# Altium schematic symbol library Component.SchLib: 203 symbols (part 1 of 2)
Pins are listed as number, name and electrical type; pins without a type are passive.

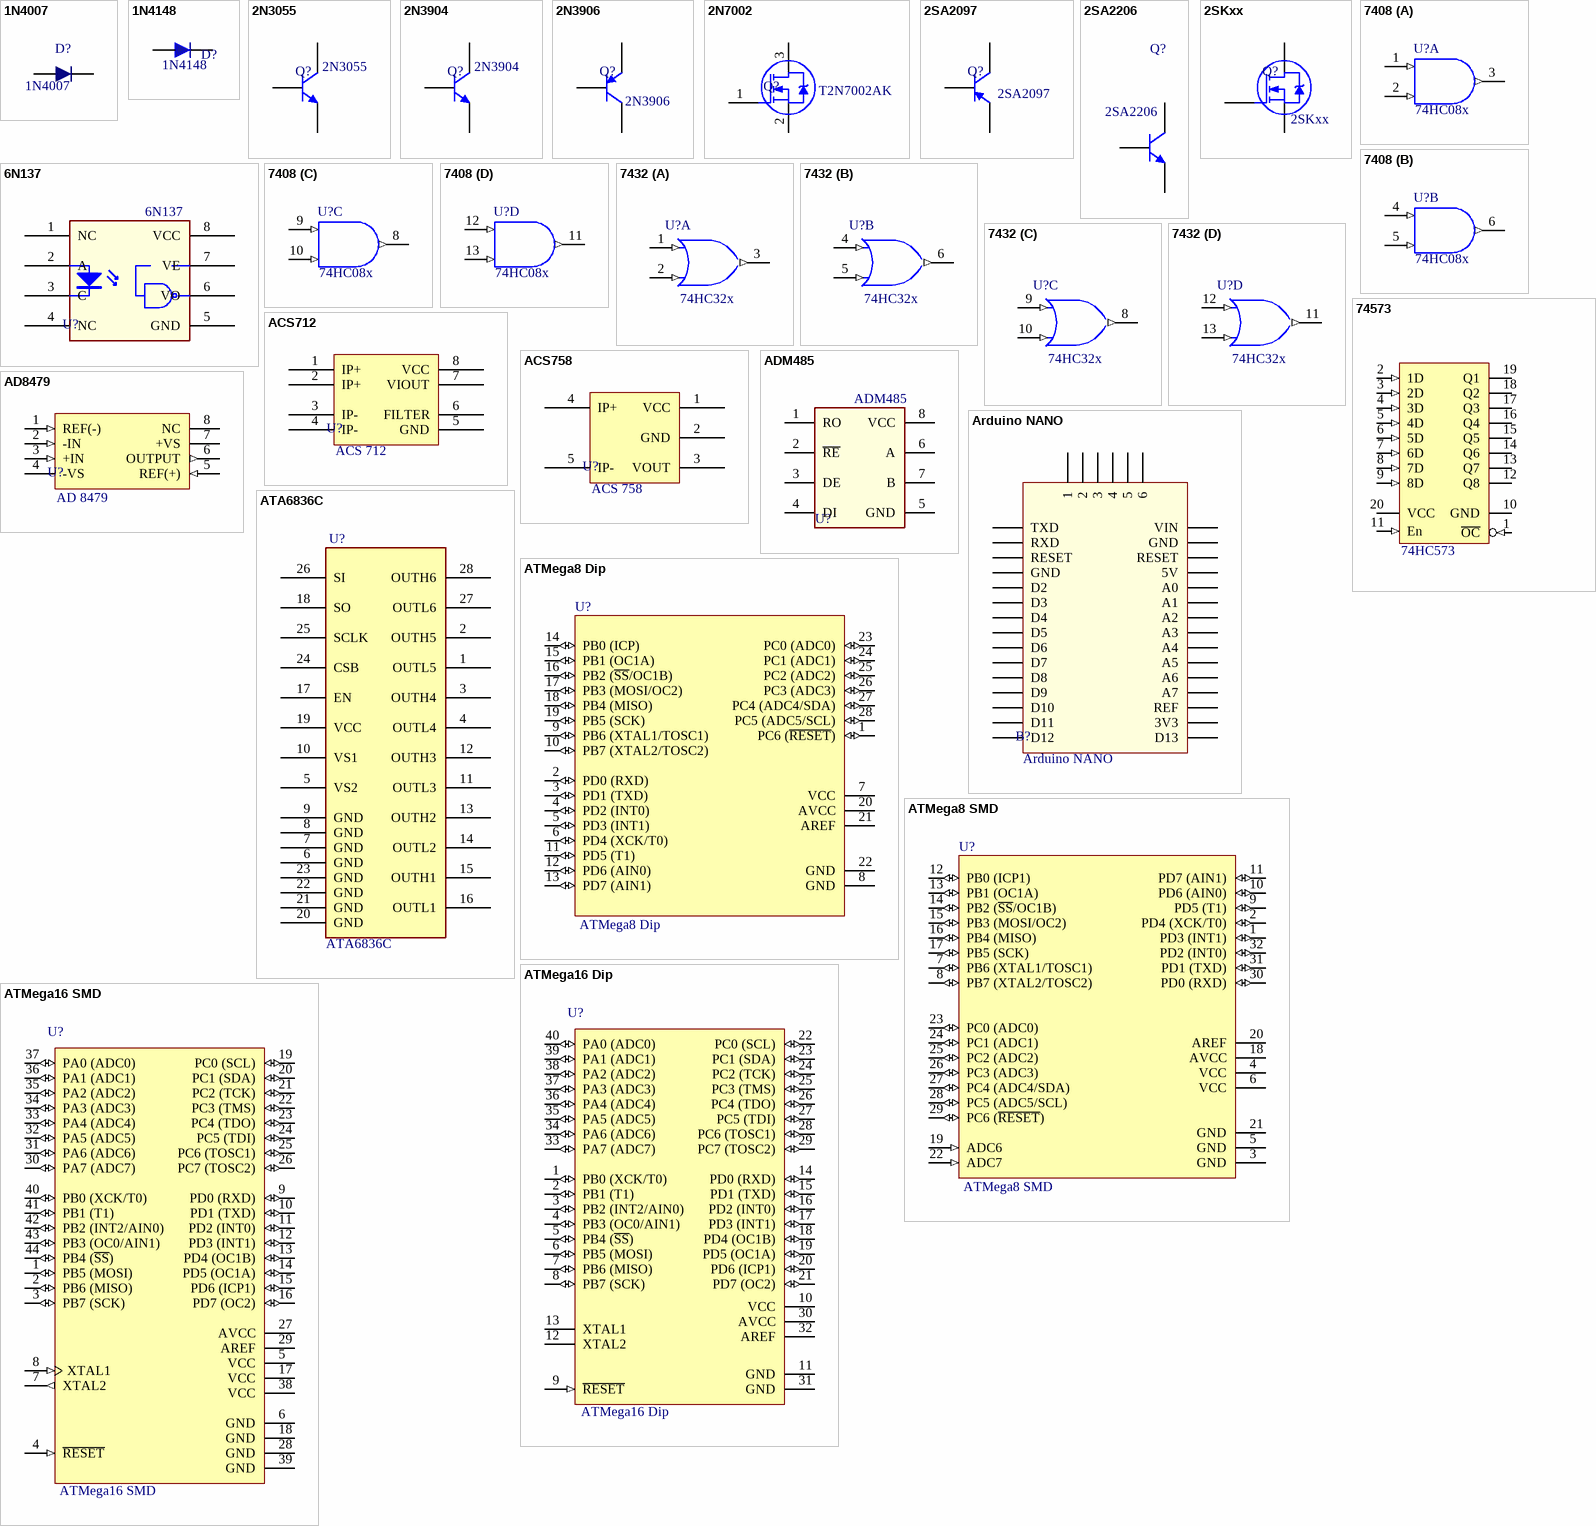
[diagram p0: symbols 1N4007 to ATMega16 SMD]

## 1N4007
designator D?
General Purpose Rectifier; SMD Code: RS1M; Specification: 1N4007 General Purpose Rectifier 1000V 1A; Temperature Range: -55°C to 150°C; Package: DO-214-AC (SMA)ss; PartNumber: 1N4007
footprint DO-214-AA (SMB) (DO-214-AA/SMB; 2 C-Bend Leads; Body 5.3 x 3.6 mm, inc. leads (LxW))
footprint DO-214-AB (SMC) (DO-214-AB/SMC; 2 C-Bend Leads; Body 7.9 x 5.9 mm, inc. leads (LxW))
footprint DO-214-AC (SMA)
pins: 1 A, 2 K

## 1N4148
designator D?
DIODE GEN PURP 100V 200MA DO35; SMD Code: *; PartNumber: 1N4148; Temperature Range: -x°C to x°C
footprint DO-35 (Diode)
footprint DO-213-AB (MELF) (Metal Electrode Face (MELF) Diode; Body 5 x 2.5 mm (LxDia))
footprint SOD-80,LL-34 (Mini MELF) (Diode, MiniMELF)
footprint SOD-123 (SOD-123; 2 Leads; Body 2.7 x 1.6 mm, (LxW))
footprint SOD-323 (SOD-323; 2 Leads; Body 1.8 x 1.35 mm, (LxW))
pins: 1, 2

## 2N3055
designator Q?
NPN Power transistor_15 A_60 V_115 W; PartNumber: 2N3055; Temperature Range: -x°C to x°C
footprint TO-3
footprint TO-3 H
pins: 1 E, 2 B, 3 C

## 2N3904
designator Q?
NPN_100 mA Switch_100 MHz Amp; PartNumber: 2N3904; Temperature Range: -x°C to x°C
footprint TO-92
footprint SOT223_4 (SOT223, 4-Leads, Body 6.5x3.5mm, Pitch 2.30mm-Designer Abbas Basereh)
footprint TO-92 BENT (DESIGNER :ABBAS BASEREH)
footprint TO-92 CF (DESIGNER :ABBAS BASEREH)
footprint TO-92 STR (DESIGNER :ABBAS BASEREH)
footprint SOT23_N_2N39xx (SOT23, 3-Leads, Body 2.9x1.3mm, Pitch 0.95mm, Lead Span 2.3mm - Reverse Pinning, IPC Medium Density)
pins: 1 E, 2 B, 3 C

## 2N3906
designator Q?
PNP_100 mA Switch_100 MHz Amp; PartNumber: 2N3906; Temperature Range: -x°C to x°C
footprint TO-92 (TO, Flat Index; 3 In-Line, Axial Leads; Body Dia. 4.6mm; Leads 0.41 x 0.39 mm (max))
footprint SOT223_4 (SOT223, 4-Leads, Body 6.5x3.5mm, Pitch 2.30mm-Designer Abbas Basereh)
footprint TO-92 BENT (DESIGNER :ABBAS BASEREH)
footprint TO-92 CF (DESIGNER :ABBAS BASEREH)
footprint TO-92 STR (DESIGNER :ABBAS BASEREH)
footprint SOT23_N_2N39xx (SOT23, 3-Leads, Body 2.9x1.3mm, Pitch 0.95mm, Lead Span 2.3mm - Reverse Pinning, IPC Medium Density)
pins: 1 E, 2 B, 3 C

## 2N7002
designator Q?, comment T2N7002AK
A Field-Effect Transistor Silicon N-Channel MOS Type; PartNumber: T2N7002AK; Temperature Range: -x°C to x°C
footprint SOT23_N (SOT23, 3-Leads, Body 2.9x1.3mm, Pitch 0.95mm, Lead Span 2.3mm - Reverse Pinning, IPC Medium Density)
pins: 1 G, 2 S, 3 D

## 2SA2097
designator Q?
Silicon PNP Epitaxial Type Transistor; PartNumber: 2SA2097; Temperature Range: -x°C to x°C
footprint D-PAK (D-PAK/TO-252-AA; 3 Leads (1 Cropped); Body 10.4 (inc. leads) x 6.7 mm (LxW max))
pins: 1 B, 2 C, 3 E

## 2SA2206
designator Q?
PartNumber: 2SA2206; Temperature Range: -x°C to x°C
footprint SOT89
pins: 1 B, 2 C, 3 E

## 2SKxx
designator Q?
Power Mosfet; PartNumber: 2SKxx; Temperature Range: -x°C to x°C
footprint TO-220
footprint TO-220 AB S (Epoxy meets UL94, V0-Design:Abbas Basereh)
footprint TO-247
footprint TO-220-H2
pins: 1 G, 2 D, 3 S

## 6N137
designator U?
OPA548 High-Voltage, High-Current Operational Amplifier; PartNumber: 6N137; Temperature Range: -x°C to x°C
footprint SOP 8-Gullwing Lead (SOP, 4-Leads, Body 4/65x6/75mm, Pitch 2/54mm, IPC Medium Density designer:abbas basereh)
pins: 1 NC, 2 A, 3 C, 4 NC, 5 GND, 6 VO, 7 VE, 8 VCC

## 7408
designator U?, comment 74HC08x
Quad 2-Input AND Gate; PartNumber: 74HC08x; Temperature Range: -x°C to x°C
footprint SOIC 14-3.9mm (SOIC, 14-Leads, Body 8.7x3.9mm, Pitch 1.27mm, IPC Medium Density)
footprint DIP 14-N (DIP; 14 Leads; Row Spacing 7.62 mm; Pitch 2.54 mm)
pins on every part: 7 GND (power) hidden to GND, 14 VDD (power) hidden to VDD
part A pins: 1 A (in), 2 B (in), 3 Y (out)
part B pins: 4 A (in), 5 B (in), 6 Y (out)
part C pins: 8 Y (out), 9 A (in), 10 B (in)
part D pins: 11 Y (out), 12 A (in), 13 B (in)

## 7432
designator U?, comment 74HC32x
Quad 2-Input OR Gate; PartNumber: 74HC32x; Temperature Range: -x°C to x°C
footprint DIP 14-N (DIP; 14 Leads; Row Spacing 7.62 mm; Pitch 2.54 mm)
footprint SOIC 14-3.9mm (SOIC, 14-Leads, Body 8.7x3.9mm, Pitch 1.27mm, IPC Medium Density)
pins on every part: 7 GND (power) hidden to GND, 14 VDD (power) hidden to VDD
part A pins: 1 A (in), 2 B (in), 3 Y (out)
part B pins: 4 A (in), 5 B (in), 6 Y (out)
part C pins: 8 Y (out), 9 A (in), 10 B (in)
part D pins: 11 Y (out), 12 A (in), 13 B (in)

## 74573
designator U?, comment 74HC573
OCTAL D-TYPE TRANSPARENT LCHtch; PartNumber: 74HC573; Temperature Range: -x°C to x°C
footprint DIP 20-N (DIP; 20 Leads; Row Spacing 7.62 mm; Pitch 2.54 mm)
footprint TSSOP 20 (Shrink Small Outline; 20 Leads; Body Width 4.4 mm; Pitch 0.65 mm)
pins: 1 ~{OC} (in), 2 1D (in), 3 2D (in), 4 3D (in), 5 4D (in), 6 5D (in), 7 6D (in), 8 7D (in), 9 8D (in), 10 GND (hiz), 11 En (in), 12 Q8 (hiz), 13 Q7 (hiz), 14 Q6 (hiz), 15 Q5 (hiz), 16 Q4 (hiz), 17 Q3 (hiz), 18 Q2 (hiz), 19 Q1 (hiz), 20 VCC (hiz)

## ACS712
designator U?, comment ACS 712
Hall Effect_Current Sensor; PartNumber: ACS 712; Temperature Range: -x°C to x°C
footprint SOIC 8-3.9mm (SOIC, 8-Leads, Body 4.9x3.9mm, Pitch 1.27mm, IPC Medium Density)
pins: 1 IP+, 2 IP+, 3 IP-, 4 IP-, 5 GND, 6 FILTER, 7 VIOUT, 8 VCC

## ACS758
designator U?, comment ACS 758
Hall Effect_Current Sensor; PartNumber: ACS 758; Temperature Range: -x°C to x°C
footprint ACS758
pins: 1 VCC, 2 GND, 3 VOUT, 4 IP+, 5 IP-

## AD8479
designator U?, comment AD 8479
Integrated Circuit; PartNumber: AD 8479; Temperature Range: -x°C to x°C
footprint SOIC 8-3.9mm (SOIC, 8-Leads, Body 4.9x3.9mm, Pitch 1.27mm, IPC Medium Density)
pins: 1 REF(-) (in), 2 -IN (in), 3 +IN (in), 4 -VS (power), 5 REF(+) (in), 6 OUTPUT (out), 7 +VS (power), 8 NC

## ADM485
designator U?
Low-Power, Slew-Rate-Limited RS-485/RS-422 Transceiver; PartNumber: ADM485; Temperature Range: -x°C to x°C
footprint DIP 8-N (DIP; 8 Leads; Row Spacing 7.62 mm; Pitch 2.54 mm)
footprint SOIC 8-3.9mm (SOIC, 8-Leads, Body 4.9x3.9mm, Pitch 1.27mm, IPC Medium Density)
pins: 1 RO, 2 ~{RE}, 3 DE, 4 DI, 5 GND, 6 A, 7 B, 8 VCC

## Arduino NANO
designator B?
Embeded Board; PartNumber: Arduino NANO; Temperature Range: -x°C to x°C
footprint Arduino NANO
pins: 1, 2, 3, 3V3, 4, 5, 5V, 6, A0, A1, A2, A3, A4, A5, A6, A7, D2, D3, D4, D5, D6, D7, D8, D9, D10, D11, D12, D13, GND, GND1 GND, REF, RST RESET, RST1 RESET, RXD, TXD, VIN

## ATA6836C
designator U?
Hex Half-bridge Driver with Serial Input Control; Specification: ATA6836C Hex Half-bridge Driver with Serial Input Control; SMD Code: ATA6836C; Temperature Range: -40°C to 150°C; Package: SOIC 28-7.5MM; PartNumber: ATA6836C
footprint SOIC 28-7.5MM (SOIC, 28-Leads, Body 17.9x7.5mm, Pitch 1.27mm, IPC Medium Density)
pins: 1 OUTL5, 2 OUTH5, 3 OUTH4, 4 OUTL4, 5 VS2, 6 GND, 7 GND, 8 GND, 9 GND, 10 VS1, 11 OUTL3, 12 OUTH3, 13 OUTH2, 14 OUTL2, 15 OUTH1, 16 OUTL1, 17 EN, 18 SO, 19 VCC, 20 GND, 21 GND, 22 GND, 23 GND, 24 CSB, 25 SCLK, 26 SI, 27 OUTL6, 28 OUTH6

## ATMega8 Dip
designator U?
8-bit AVR Microcontroller, 8KB Flash, 512 Bytes EEPROM, 1KB SRAM, 28-pin PDIP, Industrial Grade (-40°C to 85°C); PartNumber: ATMega8 Dip; Temperature Range: -x°C to x°C
footprint DIP 28-N (28-Pin Ceramic Dual In-Line Package (CerDIP))
pins: 1 PC6 (~{RESET}) (io), 2 PD0 (RXD) (io), 3 PD1 (TXD) (io), 4 PD2 (INT0) (io), 5 PD3 (INT1) (io), 6 PD4 (XCK/T0) (io), 7 VCC (power), 8 GND (power), 9 PB6 (XTAL1/TOSC1) (io), 10 PB7 (XTAL2/TOSC2) (io), 11 PD5 (T1) (io), 12 PD6 (AIN0) (io), 13 PD7 (AIN1) (io), 14 PB0 (ICP) (io), 15 PB1 (OC1A) (io), 16 PB2 (~{SS}/OC1B) (io), 17 PB3 (MOSI/OC2) (io), 18 PB4 (MISO) (io), 19 PB5 (SCK) (io), 20 AVCC (power), 21 AREF, 22 GND (power), 23 PC0 (ADC0) (io), 24 PC1 (ADC1) (io), 25 PC2 (ADC2) (io), 26 PC3 (ADC3) (io), 27 PC4 (ADC4/SDA) (io), 28 PC5 (ADC5/SCL) (io)

## ATMega8 SMD
designator U?
8-bit AVR Microcontroller, 8KB Flash, 512 Bytes EEPROM, 1KB SRAM, 32-pin TQFP, Industrial Grade (-40°C to 85°C); PartNumber: ATMega8 SMD; Temperature Range: -x°C to x°C
footprint TQFP 32-N (32-Pin Thin Quad Flat Pack 0.8 mm Pitch, IPC Medium Density)
pins: 1 PD3 (INT1) (io), 2 PD4 (XCK/T0) (io), 3 GND (power), 4 VCC (power), 5 GND (power), 6 VCC (power), 7 PB6 (XTAL1/TOSC1) (io), 8 PB7 (XTAL2/TOSC2) (io), 9 PD5 (T1) (io), 10 PD6 (AIN0) (io), 11 PD7 (AIN1) (io), 12 PB0 (ICP1) (io), 13 PB1 (OC1A) (io), 14 PB2 (~{SS}/OC1B) (io), 15 PB3 (MOSI/OC2) (io), 16 PB4 (MISO) (io), 17 PB5 (SCK) (io), 18 AVCC (power), 19 ADC6 (in), 20 AREF (power), 21 GND (power), 22 ADC7 (in), 23 PC0 (ADC0) (io), 24 PC1 (ADC1) (io), 25 PC2 (ADC2) (io), 26 PC3 (ADC3) (io), 27 PC4 (ADC4/SDA) (io), 28 PC5 (ADC5/SCL) (io), 29 PC6 (~{RESET}) (io), 30 PD0 (RXD) (io), 31 PD1 (TXD) (io), 32 PD2 (INT0) (io)

## ATMega16 Dip
designator U?
8-bit AVR Microcontroller, 16KB Flash, 512 Bytes EEPROM, 1KB SRAM, 40-pin PDIP, Industrial Grade (-40°C to 85°C); PartNumber: ATMega16 Dip; Temperature Range: -x°C to x°C
footprint DIP 40- Microchip
pins: 1 PB0 (XCK/T0) (io), 2 PB1 (T1) (io), 3 PB2 (INT2/AIN0) (io), 4 PB3 (OC0/AIN1) (io), 5 PB4 (~{SS}) (io), 6 PB5 (MOSI) (io), 7 PB6 (MISO) (io), 8 PB7 (SCK) (io), 9 ~{RESET} (in), 10 VCC (power), 11 GND (power), 12 XTAL2, 13 XTAL1, 14 PD0 (RXD) (io), 15 PD1 (TXD) (io), 16 PD2 (INT0) (io), 17 PD3 (INT1) (io), 18 PD4 (OC1B) (io), 19 PD5 (OC1A) (io), 20 PD6 (ICP1) (io), 21 PD7 (OC2) (io), 22 PC0 (SCL) (io), 23 PC1 (SDA) (io), 24 PC2 (TCK) (io), 25 PC3 (TMS) (io), 26 PC4 (TDO) (io), 27 PC5 (TDI) (io), 28 PC6 (TOSC1) (io), 29 PC7 (TOSC2) (io), 30 AVCC (power), 31 GND (power), 32 AREF (power), 33 PA7 (ADC7) (io), 34 PA6 (ADC6) (io), 35 PA5 (ADC5) (io), 36 PA4 (ADC4) (io), 37 PA3 (ADC3) (io), 38 PA2 (ADC2) (io), 39 PA1 (ADC1) (io), 40 PA0 (ADC0) (io)

## ATMega16 SMD
designator U?
8-bit AVR Microcontroller, 16KB Flash, 512 Bytes EEPROM, 1KB SRAM, 44-pin TQFP, Industrial Grade (-40°C to 85°C); Temperature Range: -x°C to x°C; PartNumber: ATMega16 SMD
footprint TQFP 44-N (44-Pin Thin Quad Flat Pack 0.8 mm Pitch, IPC Medium Density)
pins: 1 PB5 (MOSI) (io), 2 PB6 (MISO) (io), 3 PB7 (SCK) (io), 4 ~{RESET} (in), 5 VCC (power), 6 GND (power), 7 XTAL2 (out), 8 XTAL1 (in), 9 PD0 (RXD) (io), 10 PD1 (TXD) (io), 11 PD2 (INT0) (io), 12 PD3 (INT1) (io), 13 PD4 (OC1B) (io), 14 PD5 (OC1A) (io), 15 PD6 (ICP1) (io), 16 PD7 (OC2) (io), 17 VCC (power), 18 GND (power), 19 PC0 (SCL) (io), 20 PC1 (SDA) (io), 21 PC2 (TCK) (io), 22 PC3 (TMS) (io), 23 PC4 (TDO) (io), 24 PC5 (TDI) (io), 25 PC6 (TOSC1) (io), 26 PC7 (TOSC2) (io), 27 AVCC (power), 28 GND (power), 29 AREF (power), 30 PA7 (ADC7) (io), 31 PA6 (ADC6) (io), 32 PA5 (ADC5) (io), 33 PA4 (ADC4) (io), 34 PA3 (ADC3) (io), 35 PA2 (ADC2) (io), 36 PA1 (ADC1) (io), 37 PA0 (ADC0) (io), 38 VCC (power), 39 GND (power), 40 PB0 (XCK/T0) (io), 41 PB1 (T1) (io), 42 PB2 (INT2/AIN0) (io), 43 PB3 (OC0/AIN1) (io), 44 PB4 (~{SS}) (io)

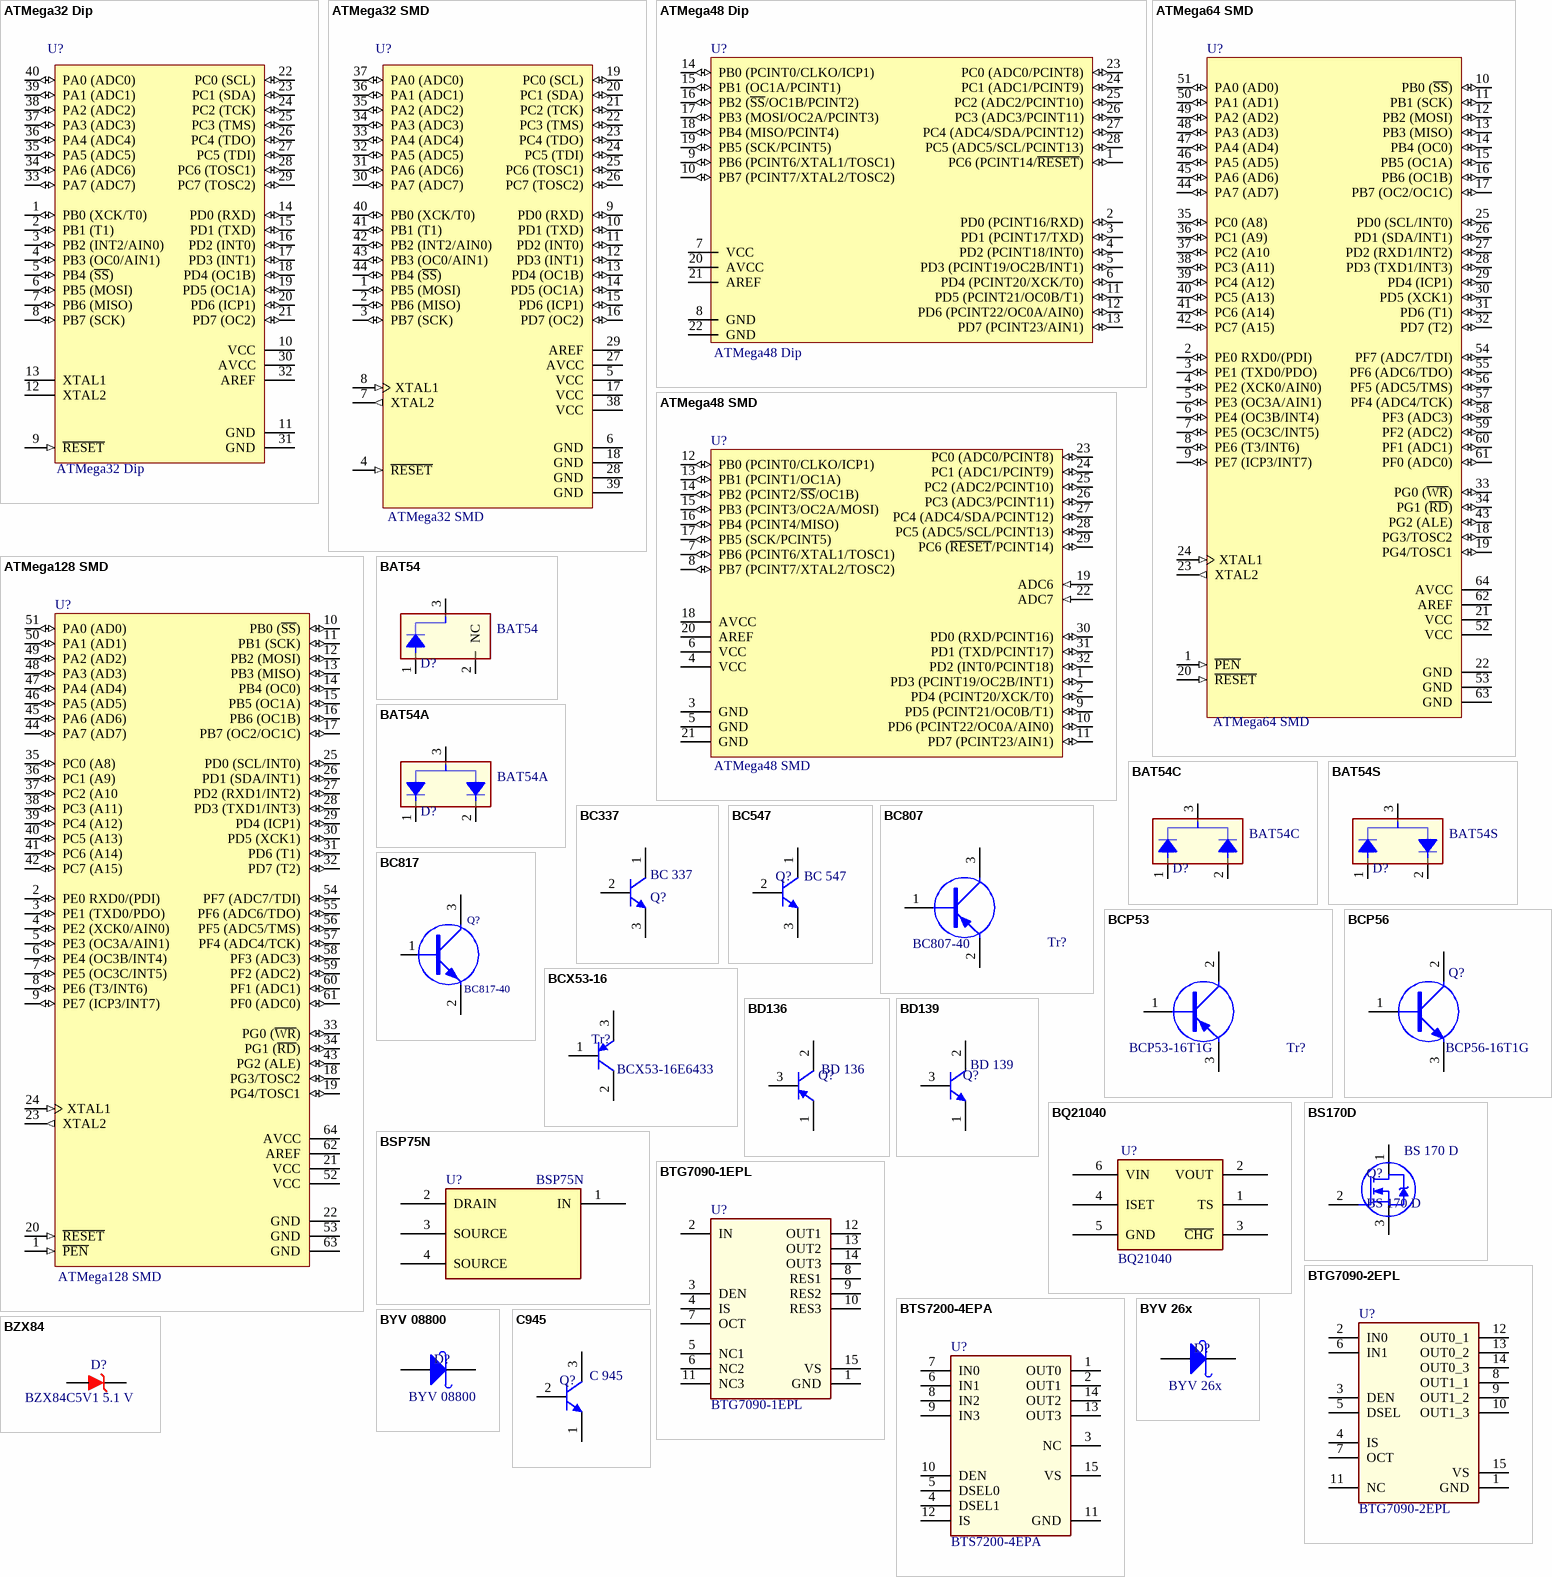
[diagram p1: symbols ATMega32 Dip to C945]

## ATMega32 Dip
designator U?
8-bit AVR Microcontroller, 32KB Flash, 1KB EEPROM, 2KB SRAM, 40-pin PDIP, Industrial Grade (-40°C to 85°C); PartNumber: ATMega32 Dip; Temperature Range: -x°C to x°C
footprint DIP 40- Microchip
pins: 1 PB0 (XCK/T0) (io), 2 PB1 (T1) (io), 3 PB2 (INT2/AIN0) (io), 4 PB3 (OC0/AIN1) (io), 5 PB4 (~{SS}) (io), 6 PB5 (MOSI) (io), 7 PB6 (MISO) (io), 8 PB7 (SCK) (io), 9 ~{RESET} (in), 10 VCC (power), 11 GND (power), 12 XTAL2, 13 XTAL1, 14 PD0 (RXD) (io), 15 PD1 (TXD) (io), 16 PD2 (INT0) (io), 17 PD3 (INT1) (io), 18 PD4 (OC1B) (io), 19 PD5 (OC1A) (io), 20 PD6 (ICP1) (io), 21 PD7 (OC2) (io), 22 PC0 (SCL) (io), 23 PC1 (SDA) (io), 24 PC2 (TCK) (io), 25 PC3 (TMS) (io), 26 PC4 (TDO) (io), 27 PC5 (TDI) (io), 28 PC6 (TOSC1) (io), 29 PC7 (TOSC2) (io), 30 AVCC (power), 31 GND (power), 32 AREF (power), 33 PA7 (ADC7) (io), 34 PA6 (ADC6) (io), 35 PA5 (ADC5) (io), 36 PA4 (ADC4) (io), 37 PA3 (ADC3) (io), 38 PA2 (ADC2) (io), 39 PA1 (ADC1) (io), 40 PA0 (ADC0) (io)

## ATMega32 SMD
designator U?
8-bit AVR Microcontroller, 32KB Flash, 1KB EEPROM, 2KB SRAM, 44-pin TQFP, Industrial Grade (-40°C to 85°C); PartNumber: ATMega32 SMD; Temperature Range: -x°C to x°C
footprint TQFP 44-N (44-Pin Thin Quad Flat Pack 0.8 mm Pitch, IPC Medium Density)
pins: 1 PB5 (MOSI) (io), 2 PB6 (MISO) (io), 3 PB7 (SCK) (io), 4 ~{RESET} (in), 5 VCC (power), 6 GND (power), 7 XTAL2 (out), 8 XTAL1 (in), 9 PD0 (RXD) (io), 10 PD1 (TXD) (io), 11 PD2 (INT0) (io), 12 PD3 (INT1) (io), 13 PD4 (OC1B) (io), 14 PD5 (OC1A) (io), 15 PD6 (ICP1) (io), 16 PD7 (OC2) (io), 17 VCC (power), 18 GND (power), 19 PC0 (SCL) (io), 20 PC1 (SDA) (io), 21 PC2 (TCK) (io), 22 PC3 (TMS) (io), 23 PC4 (TDO) (io), 24 PC5 (TDI) (io), 25 PC6 (TOSC1) (io), 26 PC7 (TOSC2) (io), 27 AVCC (power), 28 GND (power), 29 AREF (power), 30 PA7 (ADC7) (io), 31 PA6 (ADC6) (io), 32 PA5 (ADC5) (io), 33 PA4 (ADC4) (io), 34 PA3 (ADC3) (io), 35 PA2 (ADC2) (io), 36 PA1 (ADC1) (io), 37 PA0 (ADC0) (io), 38 VCC (power), 39 GND (power), 40 PB0 (XCK/T0) (io), 41 PB1 (T1) (io), 42 PB2 (INT2/AIN0) (io), 43 PB3 (OC0/AIN1) (io), 44 PB4 (~{SS}) (io)

## ATMega48 Dip
designator U?
8-bit AVR Microcontroller, 4KB Flash, 256 Bytes EEPROM, 512 Bytes SRAM, 28-pin PDIP, Industrial Grade (-40°C to 85°C); PartNumber: ATMega48 Dip; Temperature Range: -x°C to x°C
footprint DIP 28-W (DIP; 28 Leads; Row Spacing 15.24 mm; Pitch 2.54 mm)
pins: 1 PC6 (PCINT14/~{RESET}) (io), 2 PD0 (PCINT16/RXD) (io), 3 PD1 (PCINT17/TXD) (io), 4 PD2 (PCINT18/INT0) (io), 5 PD3 (PCINT19/OC2B/INT1) (io), 6 PD4 (PCINT20/XCK/T0) (io), 7 VCC (power), 8 GND (power), 9 PB6 (PCINT6/XTAL1/TOSC1) (io), 10 PB7 (PCINT7/XTAL2/TOSC2) (io), 11 PD5 (PCINT21/OC0B/T1) (io), 12 PD6 (PCINT22/OC0A/AIN0) (io), 13 PD7 (PCINT23/AIN1) (io), 14 PB0 (PCINT0/CLKO/ICP1) (io), 15 PB1 (OC1A/PCINT1) (io), 16 PB2 (~{SS}/OC1B/PCINT2) (io), 17 PB3 (MOSI/OC2A/PCINT3) (io), 18 PB4 (MISO/PCINT4) (io), 19 PB5 (SCK/PCINT5) (io), 20 AVCC (power), 21 AREF (power), 22 GND (power), 23 PC0 (ADC0/PCINT8) (io), 24 PC1 (ADC1/PCINT9) (io), 25 PC2 (ADC2/PCINT10) (io), 26 PC3 (ADC3/PCINT11) (io), 27 PC4 (ADC4/SDA/PCINT12) (io), 28 PC5 (ADC5/SCL/PCINT13) (io)

## ATMega48 SMD
designator U?
8-bit AVR Microcontroller, 4KB Flash, 256 Bytes EEPROM, 512 Bytes SRAM, 32-pin TQFP, Industrial Grade (-40°C to 85°C); PartNumber: ATMega48 SMD; Temperature Range: -x°C to x°C
footprint TQFP 32-N (32-Pin Thin Quad Flat Pack 0.8 mm Pitch, IPC Medium Density)
pins: 1 PD3 (PCINT19/OC2B/INT1) (io), 2 PD4 (PCINT20/XCK/T0) (io), 3 GND (power), 4 VCC (power), 5 GND (power), 6 VCC (power), 7 PB6 (PCINT6/XTAL1/TOSC1) (io), 8 PB7 (PCINT7/XTAL2/TOSC2) (io), 9 PD5 (PCINT21/OC0B/T1) (io), 10 PD6 (PCINT22/OC0A/AIN0) (io), 11 PD7 (PCINT23/AIN1) (io), 12 PB0 (PCINT0/CLKO/ICP1) (io), 13 PB1 (PCINT1/OC1A) (io), 14 PB2 (PCINT2/~{SS}/OC1B) (io), 15 PB3 (PCINT3/OC2A/MOSI) (io), 16 PB4 (PCINT4/MISO) (io), 17 PB5 (SCK/PCINT5) (io), 18 AVCC (power), 19 ADC6 (in), 20 AREF, 21 GND (power), 22 ADC7 (in), 23 PC0 (ADC0/PCINT8) (io), 24 PC1 (ADC1/PCINT9) (io), 25 PC2 (ADC2/PCINT10) (io), 26 PC3 (ADC3/PCINT11) (io), 27 PC4 (ADC4/SDA/PCINT12) (io), 28 PC5 (ADC5/SCL/PCINT13) (io), 29 PC6 (~{RESET}/PCINT14) (io), 30 PD0 (RXD/PCINT16) (io), 31 PD1 (TXD/PCINT17) (io), 32 PD2 (INT0/PCINT18) (io)

## ATMega64 SMD
designator U?
8-bit AVR Microcontroller, 64KB Flash, 2KB EEPROM, 4KB SRAM, 64-pin TQFP, Industrial Grade (-40°C to 85°C); PartNumber: ATMega64 SMD; Temperature Range: -x°C to x°C
footprint TQFP 64-N (64-Pin Thin Quad Flat Pack 0.8 mm Pitch, IPC Medium Density)
pins: 1 ~{PEN} (in), 2 PE0 RXD0/(PDI) (io), 3 PE1 (TXD0/PDO) (io), 4 PE2 (XCK0/AIN0) (io), 5 PE3 (OC3A/AIN1) (io), 6 PE4 (OC3B/INT4) (io), 7 PE5 (OC3C/INT5) (io), 8 PE6 (T3/INT6) (io), 9 PE7 (ICP3/INT7) (io), 10 PB0 (~{SS}) (io), 11 PB1 (SCK) (io), 12 PB2 (MOSI) (io), 13 PB3 (MISO) (io), 14 PB4 (OC0) (io), 15 PB5 (OC1A) (io), 16 PB6 (OC1B) (io), 17 PB7 (OC2/OC1C) (io), 18 PG3/TOSC2 (io), 19 PG4/TOSC1 (io), 20 ~{RESET} (in), 21 VCC (power), 22 GND (power), 23 XTAL2 (out), 24 XTAL1 (in), 25 PD0 (SCL/INT0) (io), 26 PD1 (SDA/INT1) (io), 27 PD2 (RXD1/INT2) (io), 28 PD3 (TXD1/INT3) (io), 29 PD4 (ICP1) (io), 30 PD5 (XCK1) (io), 31 PD6 (T1) (io), 32 PD7 (T2) (io), 33 PG0 (~{WR}) (io), 34 PG1 (~{RD}) (io), 35 PC0 (A8) (io), 36 PC1 (A9) (io), 37 PC2 (A10 (io), 38 PC3 (A11) (io), 39 PC4 (A12) (io), 40 PC5 (A13) (io), 41 PC6 (A14) (io), 42 PC7 (A15) (io), 43 PG2 (ALE) (io), 44 PA7 (AD7) (io), 45 PA6 (AD6) (io), 46 PA5 (AD5) (io), 47 PA4 (AD4) (io), 48 PA3 (AD3) (io), 49 PA2 (AD2) (io), 50 PA1 (AD1) (io), 51 PA0 (AD0) (io), 52 VCC (power), 53 GND (power), 54 PF7 (ADC7/TDI) (io), 55 PF6 (ADC6/TDO) (io), 56 PF5 (ADC5/TMS) (io), 57 PF4 (ADC4/TCK) (io), 58 PF3 (ADC3) (io), 59 PF2 (ADC2) (io), 60 PF1 (ADC1) (io), 61 PF0 (ADC0) (io), 62 AREF (power), 63 GND (power), 64 AVCC (power)

## ATMega128 SMD
designator U?
8-bit AVR Microcontroller, 128KB Flash, 4KB EEPROM, 4KB SRAM, 64-pin TQFP, Industrial Grade (-40°C to 85°C); Temperature Range: -x°C to x°C; PartNumber: ATMega128 SMD
footprint TQFP 64-N (64-Pin Thin Quad Flat Pack 0.8 mm Pitch, IPC Medium Density)
pins: 1 ~{PEN} (in), 2 PE0 RXD0/(PDI) (io), 3 PE1 (TXD0/PDO) (io), 4 PE2 (XCK0/AIN0) (io), 5 PE3 (OC3A/AIN1) (io), 6 PE4 (OC3B/INT4) (io), 7 PE5 (OC3C/INT5) (io), 8 PE6 (T3/INT6) (io), 9 PE7 (ICP3/INT7) (io), 10 PB0 (~{SS}) (io), 11 PB1 (SCK) (io), 12 PB2 (MOSI) (io), 13 PB3 (MISO) (io), 14 PB4 (OC0) (io), 15 PB5 (OC1A) (io), 16 PB6 (OC1B) (io), 17 PB7 (OC2/OC1C) (io), 18 PG3/TOSC2 (io), 19 PG4/TOSC1 (io), 20 ~{RESET} (in), 21 VCC (power), 22 GND (power), 23 XTAL2 (out), 24 XTAL1 (in), 25 PD0 (SCL/INT0) (io), 26 PD1 (SDA/INT1) (io), 27 PD2 (RXD1/INT2) (io), 28 PD3 (TXD1/INT3) (io), 29 PD4 (ICP1) (io), 30 PD5 (XCK1) (io), 31 PD6 (T1) (io), 32 PD7 (T2) (io), 33 PG0 (~{WR}) (io), 34 PG1 (~{RD}) (io), 35 PC0 (A8) (io), 36 PC1 (A9) (io), 37 PC2 (A10 (io), 38 PC3 (A11) (io), 39 PC4 (A12) (io), 40 PC5 (A13) (io), 41 PC6 (A14) (io), 42 PC7 (A15) (io), 43 PG2 (ALE) (io), 44 PA7 (AD7) (io), 45 PA6 (AD6) (io), 46 PA5 (AD5) (io), 47 PA4 (AD4) (io), 48 PA3 (AD3) (io), 49 PA2 (AD2) (io), 50 PA1 (AD1) (io), 51 PA0 (AD0) (io), 52 VCC (power), 53 GND (power), 54 PF7 (ADC7/TDI) (io), 55 PF6 (ADC6/TDO) (io), 56 PF5 (ADC5/TMS) (io), 57 PF4 (ADC4/TCK) (io), 58 PF3 (ADC3) (io), 59 PF2 (ADC2) (io), 60 PF1 (ADC1) (io), 61 PF0 (ADC0) (io), 62 AREF (power), 63 GND (power), 64 AVCC (power)

## BAT54
designator D?
Planar Schottky barrier diodes with an integrated guard ring for stress protection, / encapsulated in a small SOT23 (TO-236AB) Surface-Mounted Device (SMD) plastic / package.; Temperature Range: -x°C to x°C; PartNumber: BAT54
footprint SOT23_L (SOT23, 3-Leads, Body 2.9x1.3mm, Pitch 0.95mm, Lead Span 2.3mm - Reverse Pinning, IPC High Density)
footprint SOT23_N (SOT23, 3-Leads, Body 2.9x1.3mm, Pitch 0.95mm, Lead Span 2.3mm - Reverse Pinning, IPC Medium Density)
pins: 1 A, 2 NC, 3 A

## BAT54A
designator D?
Planar Schottky barrier diodes with an integrated guard ring for stress protection, / encapsulated in a small SOT23 (TO-236AB) Surface-Mounted Device (SMD) plastic / package.; PartNumber: BAT54A; Temperature Range: -x°C to x°C
footprint SOT23_L (SOT23, 3-Leads, Body 2.9x1.3mm, Pitch 0.95mm, Lead Span 2.3mm - Reverse Pinning, IPC High Density)
footprint SOT23_N (SOT23, 3-Leads, Body 2.9x1.3mm, Pitch 0.95mm, Lead Span 2.3mm - Reverse Pinning, IPC Medium Density)
pins: 1 A, 2 K, 3 A

## BAT54C
designator D?
Planar Schottky barrier diodes with an integrated guard ring for stress protection, / encapsulated in a small SOT23 (TO-236AB) Surface-Mounted Device (SMD) plastic / package.; PartNumber: BAT54C; Temperature Range: -x°C to x°C
footprint SOT23_L (SOT23, 3-Leads, Body 2.9x1.3mm, Pitch 0.95mm, Lead Span 2.3mm - Reverse Pinning, IPC High Density)
footprint SOT23_N (SOT23, 3-Leads, Body 2.9x1.3mm, Pitch 0.95mm, Lead Span 2.3mm - Reverse Pinning, IPC Medium Density)
pins: 1 A, 2 K, 3 A

## BAT54S
designator D?
Planar Schottky barrier diodes with an integrated guard ring for stress protection, / encapsulated in a small SOT23 (TO-236AB) Surface-Mounted Device (SMD) plastic / package.; PartNumber: BAT54S; Temperature Range: -x°C to x°C
footprint SOT23_L (SOT23, 3-Leads, Body 2.9x1.3mm, Pitch 0.95mm, Lead Span 2.3mm - Reverse Pinning, IPC High Density)
footprint SOT23_N (SOT23, 3-Leads, Body 2.9x1.3mm, Pitch 0.95mm, Lead Span 2.3mm - Reverse Pinning, IPC Medium Density)
pins: 1 A, 2 K, 3 A

## BC337
designator Q?, comment BC 337
45 V, 500 mA NPN general-purpose transistors; PartNumber: BC 337; Temperature Range: -x°C to x°C
footprint TO-92 (TO, Flat Index; 3 In-Line, Axial Leads; Body Dia. 4.6mm; Leads 0.41 x 0.39 mm (max))
footprint TO-92 BENT (DESIGNER :ABBAS BASEREH)
footprint TO-92 CF (DESIGNER :ABBAS BASEREH)
footprint TO-92 STR (DESIGNER :ABBAS BASEREH)
pins: 1 C, 2 B, 3 E

## BC547
designator Q?, comment BC 547
45 V, 100 mA NPN general-purpose transistors; PartNumber: BC 547; Temperature Range: -x°C to x°C
footprint TO-92 (TO, Flat Index; 3 In-Line, Axial Leads; Body Dia. 4.6mm; Leads 0.41 x 0.39 mm (max))
footprint TO-92 BENT (DESIGNER :ABBAS BASEREH)
footprint TO-92 CF (DESIGNER :ABBAS BASEREH)
footprint TO-92 STR (DESIGNER :ABBAS BASEREH)
pins: 1 C, 2 B, 3 E

## BC807
designator Tr?, comment BC807-40
PNP Transistor; PartNumber: BC807-40; Temperature Range: -x°C to x°C
footprint SOT23_N (SOT23, 3-Leads, Body 2.9x1.3mm, Pitch 0.95mm, Lead Span 2.3mm - Reverse Pinning, IPC Medium Density)
pins: 1 B, 2 E, 3 C

## BC817
designator Q?, comment BC817-40
45 V, 500 mA NPN general-purpose transistors; SMD Code: 6C%; Specification: BC817-40 -NPN general-purpose transistors  45 V, 500 mA; Temperature Range: -55°C ~ 150 °C; PartNumber: BC817-40; Package: SOT23 (TO-236AB)
footprint SOT23_N (SOT23, 3-Leads, Body 2.9x1.3mm, Pitch 0.95mm, Lead Span 2.3mm - Reverse Pinning, IPC Medium Density)
footprint SOT23_L (SOT23, 3-Leads, Body 2.9x1.3mm, Pitch 0.95mm, Lead Span 2.3mm - Reverse Pinning, IPC High Density)
pins: 1 B, 2 E, 3 C

## BCP53
designator Tr?, comment BCP53-16T1G
PNP Transistor; Temperature Range: -x°C to x°C; PartNumber: BCP53-16T1G
footprint SOT223_4 (SOT223, 4-Leads, Body 6.5x3.5mm, Pitch 2.30mm-Designer Abbas Basereh)
pins: 1 B, 2 C, 3 E

## BCP56
designator Q?, comment BCP56-16T1G
NPN Silicon Epitaxial Transistor 80V 1A; SMD Code: BH−16; Specification: BCP56-16T1G NPN Silicon Epitaxial Transistor 80V 1A; Temperature Range: -40°C to 85°C; PartNumber: BCP56-16T1G; Package: SOT−223
footprint SOT223_4 (SOT223, 4-Leads, Body 6.5x3.5mm, Pitch 2.30mm-Designer Abbas Basereh)
pins: 1 B, 2 C, 3 E

## BCX53-16
designator Tr?, comment BCX53-16E6433
PNP_100 mA Switch_100 MHz Amp; Temperature Range: -x°C to x°C; PartNumber: BCX53-16E6433
footprint SOT89
pins: 1 B, 2 C, 3 E

## BD136
designator Q?, comment BD 136
Medium Power_PNP Transistors; Temperature Range: -x°C to x°C; PartNumber: BD 136
footprint TO-126A
pins: 1 E, 2 C, 3 B

## BD139
designator Q?, comment BD 139
Medium Power_NPN Transistors; Temperature Range: -x°C to x°C; PartNumber: BD 139
footprint TO-126A
pins: 1 E, 2 C, 3 B

## BQ21040
designator U?
bq21040 0.8-A, Single-Input, Single Cell Li-Ion and Li-Pol Battery Charger; SMD Code: 130E; Temperature Range: -40°C to 125°C; Package: SOT23-6; Specification: BQ21040 0.8-A, Single-Input, Single Cell Li-Ion and Li-Pol Battery Charger; PartNumber: BQ21040
footprint SOT23-6
pins: 1 TS, 2 VOUT, 3 ~{C}~{H}~{G}, 4 ISET, 5 GND, 6 VIN

## BS170D
designator Q?, comment BS 170 D
500 mA_60 V_5 Ohm_N Channel_Small Signal; PartNumber: BS 170 D; Temperature Range: -x°C to x°C
footprint TO-92
footprint SOT23_N (SOT23, 3-Leads, Body 2.9x1.3mm, Pitch 0.95mm, Lead Span 2.3mm - Reverse Pinning, IPC Medium Density); pin to pad 1>3 3>1
pins: 1 D, 2 G, 3 S

## BSP75N
designator U?
700mA Smart Low-Side Power Switch SOT223 Infineon BSP75N Intelligent Power Switch, Low Side, 0.7A, 60V, 3+Tab-Pin, SOT-223; Temperature Range: -x°C to x°C; PartNumber: BSP75N
footprint SOT223 (SOT223, 4-Leads, Body 6.5x3.5mm, Pitch 2.30mm-Designer Abbas Basereh)
pins: 1 IN, 2 DRAIN, 3 SOURCE, 4 SOURCE

## BTG7090-1EPL
designator U?
PROFET Load Guard, Smart High-Side Power Switch; Specification: Smart High-side switch with diagnosis and embedded protection; SMD Code: BTG7090-1EPL; Temperature Range: -40°C to 150°C; Warehouse Number: *; Package: TSSOP 14 - Exposed Pad; PartNumber: BTG7090-1EPL
footprint TSSOP 14 - Exposed Pad (SOP,0.65mm pitch;14 pin,3.90mm W X 4.90mm L X 1.15mm H body (w/thermal tab))
pins: 1 GND (power) "Ground", 2 IN "Input Channel", 3 DEN "Diagnostic Enable", 4 IS "SENSE current output", 5 NC1 "Not connected", 6 NC2 "Not connected", 7 OCT "Adjustable overcurrent threshold", 8 RES1 "Reserved 1", 9 RES2 "Reserved 2", 10 RES3 "Reserved 3", 11 NC3 "Not Connected", 12 OUT1 "Output 1", 13 OUT2 "Output 2", 14 OUT3 "Output 3", 15 VS (power) "Supply Voltage"

## BTG7090-2EPL
designator U?
PROFET Load Guard, Smart High-Side Power Switch; Specification: Smart High-side switch with diagnosis and embedded protection; SMD Code: BTG7090-2EPL; Temperature Range: -40°C to 150°C; Warehouse Number: *; Package: TSSOP 14 - Exposed Pad; PartNumber: BTG7090-2EPL
footprint TSSOP 14 - Exposed Pad (SOP,0.65mm pitch;14 pin,3.90mm W X 4.90mm L X 1.15mm H body (w/thermal tab))
pins: 1 GND "Ground", 2 IN0 "Input Channel 0", 3 DEN "Diagnostic Enable", 4 IS "SENSE current output", 5 DSEL "Diagnosis Selection", 6 IN1 "Input Channel 1", 7 OCT "Adjustable overcurrent threshold", 8 OUT1_1 "Output 1", 9 OUT1_2 "Output 2", 10 OUT1_3 "Output 3", 11 NC "Not Connected", 12 OUT0_1 "Output 1", 13 OUT0_2 "Output 2", 14 OUT0_3 "Output 3", 15 VS "Supply Voltage"

## BTS7200-4EPA
designator U?
PROFET™ +2 12V 4x 200 mΩ Smart High-Side Power Switch; Specification: 4 Channel Smart High-side switch with diagnosis and embedded protection; SMD Code: BTS7200-4EPA; Temperature Range: -40°C to 150°C; Warehouse Number: *; Package: TSSOP 14 - Exposed Pad; PartNumber: BTS7200-4EPA
footprint TSSOP 14 - Exposed Pad (SOP,0.65mm pitch;14 pin,3.90mm W X 4.90mm L X 1.15mm H body (w/thermal tab))
pins: 1 OUT0 "OUTput 0; Protected high side power output channel 0.", 2 OUT1 "Output 1; Protected high side power output channel 1.", 3 NC "Not Connected; No internal connection to the chip.", 4 DSEL1 "Diagnostic Selection; Digital signal to select the channel to be diagnosed.", 5 DSEL0 "Diagnostic Selection; Digital signal to select the channel to be diagnosed.", 6 IN1 "Input channel 1; Input signal for channel 1 activation.", 7 IN0 "Input channel 0; Input signal for channel 0 activation.", 8 IN2 "Input channel 2; Input signal for channel 2 activation.", 9 IN3 "Input channel 3; Input signal for channel 3 activation.", 10 DEN "Diagnostic Enable; Digital signal to enable/disable the diagnosis of the device.", 11 GND "Ground", 12 IS "Sense; Sense current of the selected channel.", 13 OUT3 "Output 3; Protected high side power output channel 3.", 14 OUT2 "Output 2; Protected high side power output channel 2.", 15 VS "Voltage Supply; Battery voltage"

## BYV 26x
designator D?
Ultra-Fast; Temperature Range: -x°C to x°C; PartNumber: BYV 26x
footprint SOD-57 (Diode)
pins: 1 A, 2 K

## BYV 08800
designator D?
Fast Schottky; Temperature Range: -x°C to x°C; PartNumber: BYV 08800
footprint TO-220AC (TO, Thru-Hole, Vertical, Heatsink Mounted; 3 In-Line Leads (1 Absent); Pitch 2.54 mm)
pins: 1 A, 2 K

## BZX84
designator D?, comment BZX84C5V1 5.1 V
Low-power voltage regulator diodes; SMD Code: Z2W; Specification: BZX84C5V1 Low-power voltage regulator diodes; Voltage: 5.1 V; Tolerance: ±5%; Temperature Range: -55°C to 150°C; Package: SOT23 (TO-236AB); PartNumber: BZX84C5V1
footprint SOT23_L (SOT23, 3-Leads, Body 2.9x1.3mm, Pitch 0.95mm, Lead Span 2.3mm - Reverse Pinning, IPC High Density)
pins: 1 A, 3 K

## C945
designator Q?, comment C 945
NPN Transistor; Temperature Range: -x°C to x°C; PartNumber: C 945
footprint TO-92 (TO, Flat Index; 3 In-Line, Axial Leads; Body Dia. 4.6mm; Leads 0.41 x 0.39 mm (max))
footprint TO-92 BENT (DESIGNER :ABBAS BASEREH)
footprint TO-92 CF (DESIGNER :ABBAS BASEREH)
footprint TO-92 STR (DESIGNER :ABBAS BASEREH)
pins: 1 E, 2 B, 3 C

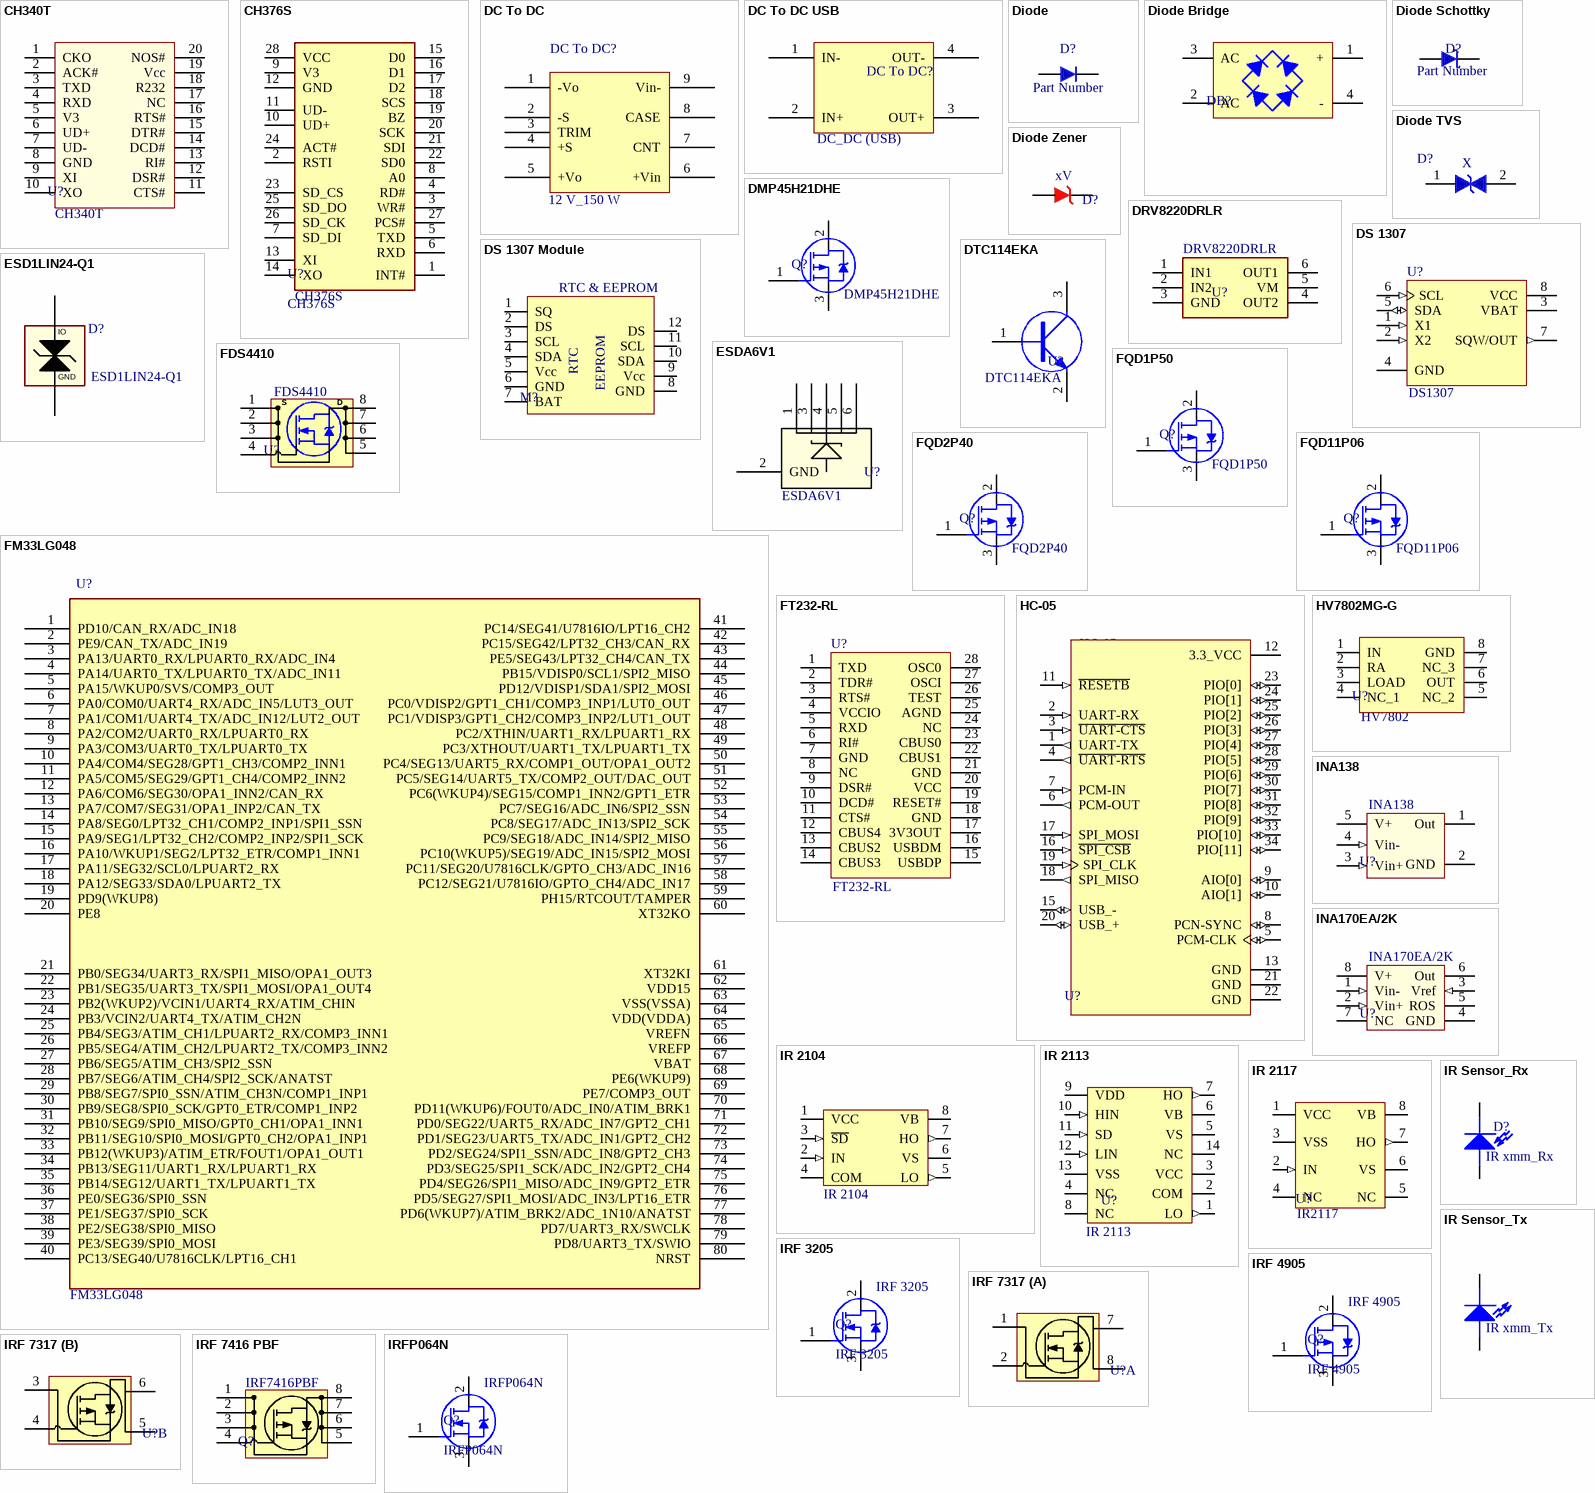
[diagram p2: symbols CH340T to IRFP064N]

## CH340T
designator U?
USB To TTL; Temperature Range: -x°C to x°C; PartNumber: CH340T
footprint TSSOP 20 (Shrink Small Outline; 20 Leads; Body Width 4.4 mm; Pitch 0.65 mm)
pins: 1 CKO, 2 ACK#, 3 TXD, 4 RXD, 5 V3, 6 UD+, 7 UD-, 8 GND, 9 XI, 10 XO, 11 CTS#, 12 DSR#, 13 RI#, 14 DCD#, 15 DTR#, 16 RTS#, 17 NC, 18 R232, 19 Vcc, 20 NOS#

## CH376S
designator U?
PartNumber: CH376S; Temperature Range: -x°C to x°C
footprint SOIC 28-7.5MM (SOIC, 28-Leads, Body 17.9x7.5mm, Pitch 1.27mm, IPC Medium Density)
pins: 1 INT#, 2 RSTI, 3 WR#, 4 RD#, 5 TXD, 6 RXD, 7 SD_DI, 8 A0, 9 V3, 10 UD+, 11 UD-, 12 GND, 13 XI, 14 XO, 15 D0, 16 D1, 17 D2, 18 SCS, 19 BZ, 20 SCK, 21 SDI, 22 SD0, 23 SD_CS, 24 ACT#, 25 SD_DO, 26 SD_CK, 27 PCS#, 28 VCC

## DC To DC
designator DC To DC?, comment 12 V_150 W
Young.Co; PartNumber: 12 V_150 W; Temperature Range: -x°C to x°C
footprint DC_DC CONVERTER (VHD150-12S12)
pins: 1 -Vo, 2 -S, 3 TRIM, 4 +S, 5 +Vo, 6 +Vin, 7 CNT, 8 CASE, 9 Vin-

## DC To DC USB
designator DC To DC?, comment DC_DC (USB)
12 -> 5 (USB); PartNumber: DC_DC (USB); Temperature Range: -x°C to x°C
footprint DC-DC Mini-360
pins: 1 IN-, 2 IN+, 3 OUT+, 4 OUT-

## Diode
designator D?, comment Part Number
Generic Diode; Temperature Range: -x°C to x°C; PartNumber: Part Number
footprint DO-214-AA (SMB) (DO-214-AA/SMB; 2 C-Bend Leads; Body 5.3 x 3.6 mm, inc. leads (LxW))
footprint DO-214-AB (SMC) (DO-214-AB/SMC; 2 C-Bend Leads; Body 7.9 x 5.9 mm, inc. leads (LxW))
footprint DO-214-AC (SMA)
footprint DO-41 , DO-204AL (Designer Abbas Basereh)
footprint DO-41 , DO-204AL stand (Designer Abbas Basereh)
footprint SOD323F
footprint SOD-123 (SOD-123; 2 Leads; Body 2.7 x 1.6 mm, (LxW))
footprint SOD-323 (SOD-323; 2 Leads; Body 1.8 x 1.35 mm, (LxW))
pins: 1 A, 2 K

## Diode Bridge
designator DB?
Full Wave (Total Size); Temperature Range: -x°C to x°C
footprint Bridge GBU PACKAGE (GBU Bridge Rectifiers DESIGNER :ABBAS BASEREH)
footprint Bridge KBJ PACKAGE (KBJ Bridge Rectifiers DESIGNER :ABBAS BASEREH)
footprint Bridge KBL PACKAGE (KBL Bridge Rectifiers DESIGNER :ABBAS BASEREH)
footprint Bridge KBP PACKAGE (KBP Bridge Rectifiers DESIGNER :ABBAS BASEREH)
footprint Bridge KBU PACKAGE (KBU Bridge Rectifiers DESIGNER :ABBAS BASEREH)
footprint Bridge WOB PACKAGE (WOB Bridge Rectifiers DESIGNER :ABBAS BASEREH)
footprint BRIDGE DFS SMD (1A)
footprint Bridge DIP (DB107)
pins: 1 +, 2 AC, 3 AC, 4 -

## Diode Schottky
designator D?, comment Part Number
Schottky Rectifiers; Temperature Range: -x°C to x°C; PartNumber: Part Number
footprint DO-27 (Vertical) (Designer Abbas Basereh)
footprint DO-214-AC (SMA)
footprint DO-27 , DO-201AD (Designer Abbas Basereh)
footprint DO-41 , DO-204AL (Designer Abbas Basereh)
footprint DO-41 , DO-204AL stand (Designer Abbas Basereh)
footprint DO-214-AA (SMB) (DO-214-AA/SMB; 2 C-Bend Leads; Body 5.3 x 3.6 mm, inc. leads (LxW))
footprint DO-214-AB (SMC) (DO-214-AB/SMC; 2 C-Bend Leads; Body 7.9 x 5.9 mm, inc. leads (LxW))
pins: 1 A, 2 K

## Diode TVS
designator D?, comment X
TVS Diode; Temperature Range: -x°C to x°C; PartNumber: X
footprint DO-214-AA (SMB) (DO-214-AA/SMB; 2 C-Bend Leads; Body 5.3 x 3.6 mm, inc. leads (LxW))
footprint DO-214-AB (SMC) (DO-214-AB/SMC; 2 C-Bend Leads; Body 7.9 x 5.9 mm, inc. leads (LxW))
footprint DO-214-AC (SMA)
footprint DO-41 , DO-204AL (Designer Abbas Basereh)
footprint DO-41 , DO-204AL stand (Designer Abbas Basereh)
footprint SOD-323 (SOD-323; 2 Leads; Body 1.8 x 1.35 mm, (LxW))
footprint SOD-123 (SOD-123; 2 Leads; Body 2.7 x 1.6 mm, (LxW))
footprint SOD323F
pins: 1, 2

## Diode Zener
designator D?, comment xV
General Diode Zener; Temperature Range: -x°C to x°C; PartNumber: xV
footprint DO-35 (Diode)
footprint Diode 1W
footprint Diode 1W Stand
footprint DO-213-AB (MELF) (Metal Electrode Face (MELF) Diode; Body 5 x 2.5 mm (LxDia))
footprint SOD-80,LL-34 (Mini MELF) (Diode, MiniMELF)
footprint SOD323F
footprint SOT23_N (SOT23, 3-Leads, Body 2.9x1.3mm, Pitch 0.95mm, Lead Span 2.3mm - Reverse Pinning, IPC Medium Density); pin to pad 2>3
footprint SOD-123 (SOD-123; 2 Leads; Body 2.7 x 1.6 mm, (LxW))
pins: 1, 2

## DMP45H21DHE
designator Q?
P Channel -450V_-0.6A_ 21 ohm; PartNumber: DMP45H21DHE; Temperature Range: -x°C to x°C
footprint SOT223_4 (SOT223, 4-Leads, Body 6.5x3.5mm, Pitch 2.30mm-Designer Abbas Basereh)
pins: 1 G, 2 D, 3 S

## DRV8220DRLR
designator U?
DRV8220 18-V H-Bridge Motor Driver with PWM, PH/EN, and Half-Bridge Control Interfaces and Low-Power Sleep Mode; PartNumber: DRV8220DRLR; Temperature Range: -x°C to x°C
footprint SOT563
pins: 1 IN1, 2 IN2, 3 GND, 4 OUT2, 5 VM, 6 OUT1

## DS 1307
designator U?, comment DS1307
64 X 8 Serial Real-Time Clock; PartNumber: DS1307; Temperature Range: -x°C to x°C
footprint DIP 8-N (DIP; 8 Leads; Row Spacing 7.62 mm; Pitch 2.54 mm)
footprint SOIC 8-3.9mm (SOIC, 8-Leads, Body 4.9x3.9mm, Pitch 1.27mm, IPC Medium Density)
pins: 1 X1 (in), 2 X2 (in), 3 VBAT (power), 4 GND (power), 5 SDA (io), 6 SCL (in), 7 SQW/OUT (out), 8 VCC (power)

## DS 1307 Module
designator M?, comment RTC & EEPROM
RTC & EEPROM Module; Temperature Range: -x°C to x°C; PartNumber: RTC & EEPROM
footprint RTC DS1307 Module
pins: 1 SQ, 2 DS, 3 SCL, 4 SDA, 5 Vcc, 6 GND, 7 BAT, 8 GND, 9 Vcc, 10 SDA, 11 SCL, 12 DS
text: RTC; EEPROM

## DTC114EKA
designator U?
Digital NPN transistor array,DTC114EKA ROHM, DTC114EKAT146 NPN Digital; PartNumber: DTC114EKA; Temperature Range: -x°C to x°C
footprint SOT23_N (SOT23, 3-Leads, Body 2.9x1.3mm, Pitch 0.95mm, Lead Span 2.3mm - Reverse Pinning, IPC Medium Density)
pins: 1 B, 2 E, 3 C

## ESD1LIN24-Q1
designator D?
ESD1LIN24-Q1 Automotive 24-V, 1-Channel ESD Protection Diodes for In-Vehicle Networks; SMD Code: 2QKF; Specification: ESD1LIN24-Q1 Automotive 24-V, 1-Channel ESD Protection Diodes for In-Vehicle Networks; Temperature Range: -55°C to 150°C; Package: SOD-323; PartNumber: ESD1LIN24-Q1
footprint SOD-323 (SOD-323; 2 Leads; Body 1.8 x 1.35 mm, (LxW))
pins: 1, 2
text: IO; GND

## ESDA6V1
designator U?
Temperature Range: -x°C to x°C; PartNumber: ESDA6V1
footprint SOT23-6
pins: 1, 2 GND, 3  , 4  , 5  , 6

## FDS4410
designator U?
PartNumber: FDS4410; Temperature Range: -x°C to x°C
footprint SOIC 8-3.9mm (SOIC, 8-Leads, Body 4.9x3.9mm, Pitch 1.27mm, IPC Medium Density)
pins: 1, 2, 3, 4, 5, 6, 7, 8
text: S; D

## FM33LG048
designator U?
FM33LG048 Low Power 32 Bit MCU Arm Cortex M0+; SMD Code: FM33LG048; Specification: FM33LG048 Low Power 32 Bit MCU Arm Cortex M0+; Temperature Range: -40°C to 85°C; Package: LQFP80; PartNumber: FM33LG048
footprint LQFP80
footprint LQFP80-M
footprint LQFP80-L
pins: 1 PD10/CAN_RX/ADC_IN18, 2 PE9/CAN_TX/ADC_IN19, 3 PA13/UART0_RX/LPUART0_RX/ADC_IN4, 4 PA14/UART0_TX/LPUART0_TX/ADC_IN11, 5 PA15/WKUP0/SVS/COMP3_OUT, 6 PA0/COM0/UART4_RX/ADC_IN5/LUT3_OUT, 7 PA1/COM1/UART4_TX/ADC_IN12/LUT2_OUT, 8 PA2/COM2/UART0_RX/LPUART0_RX, 9 PA3/COM3/UART0_TX/LPUART0_TX, 10 PA4/COM4/SEG28/GPT1_CH3/COMP2_INN1, 11 PA5/COM5/SEG29/GPT1_CH4/COMP2_INN2, 12 PA6/COM6/SEG30/OPA1_INN2/CAN_RX, 13 PA7/COM7/SEG31/OPA1_INP2/CAN_TX, 14 PA8/SEG0/LPT32_CH1/COMP2_INP1/SPI1_SSN, 15 PA9/SEG1/LPT32_CH2/COMP2_INP2/SPI1_SCK, 16 PA10/WKUP1/SEG2/LPT32_ETR/COMP1_INN1, 17 PA11/SEG32/SCL0/LPUART2_RX, 18 PA12/SEG33/SDA0/LPUART2_TX, 19 PD9(WKUP8), 20 PE8, 21 PB0/SEG34/UART3_RX/SPI1_MISO/OPA1_OUT3, 22 PB1/SEG35/UART3_TX/SPI1_MOSI/OPA1_OUT4, 23 PB2(WKUP2)/VCIN1/UART4_RX/ATIM_CHIN, 24 PB3/VCIN2/UART4_TX/ATIM_CH2N, 25 PB4/SEG3/ATIM_CH1/LPUART2_RX/COMP3_INN1, 26 PB5/SEG4/ATIM_CH2/LPUART2_TX/COMP3_INN2, 27 PB6/SEG5/ATIM_CH3/SPI2_SSN, 28 PB7/SEG6/ATIM_CH4/SPI2_SCK/ANATST, 29 PB8/SEG7/SPI0_SSN/ATIM_CH3N/COMP1_INP1, 30 PB9/SEG8/SPI0_SCK/GPT0_ETR/COMP1_INP2, 31 PB10/SEG9/SPI0_MISO/GPT0_CH1/OPA1_INN1, 32 PB11/SEG10/SPI0_MOSI/GPT0_CH2/OPA1_INP1, 33 PB12(WKUP3)/ATIM_ETR/FOUT1/OPA1_OUT1, 34 PB13/SEG11/UART1_RX/LPUART1_RX, 35 PB14/SEG12/UART1_TX/LPUART1_TX, 36 PE0/SEG36/SPI0_SSN, 37 PE1/SEG37/SPI0_SCK, 38 PE2/SEG38/SPI0_MISO, 39 PE3/SEG39/SPI0_MOSI, 40 PC13/SEG40/U7816CLK/LPT16_CH1, 41 PC14/SEG41/U7816IO/LPT16_CH2, 42 PC15/SEG42/LPT32_CH3/CAN_RX, 43 PE5/SEG43/LPT32_CH4/CAN_TX, 44 PB15/VDISP0/SCL1/SPI2_MISO, 45 PD12/VDISP1/SDA1/SPI2_MOSI, 46 PC0/VDISP2/GPT1_CH1/COMP3_INP1/LUT0_OUT, 47 PC1/VDISP3/GPT1_CH2/COMP3_INP2/LUT1_OUT, 48 PC2/XTHIN/UART1_RX/LPUART1_RX, 49 PC3/XTHOUT/UART1_TX/LPUART1_TX, 50 PC4/SEG13/UART5_RX/COMP1_OUT/OPA1_OUT2, 51 PC5/SEG14/UART5_TX/COMP2_OUT/DAC_OUT, 52 PC6(WKUP4)/SEG15/COMP1_INN2/GPT1_ETR, 53 PC7/SEG16/ADC_IN6/SPI2_SSN, 54 PC8/SEG17/ADC_IN13/SPI2_SCK, 55 PC9/SEG18/ADC_IN14/SPI2_MISO, 56 PC10(WKUP5)/SEG19/ADC_IN15/SPI2_MOSI, 57 PC11/SEG20/U7816CLK/GPTO_CH3/ADC_IN16, 58 PC12/SEG21/U7816IO/GPTO_CH4/ADC_IN17, 59 PH15/RTCOUT/TAMPER, 60 XT32KO, 61 XT32KI, 62 VDD15, 63 VSS(VSSA), 64 VDD(VDDA), 65 VREFN, 66 VREFP, 67 VBAT, 68 PE6(WKUP9), 69 PE7/COMP3_OUT, 70 PD11(WKUP6)/FOUT0/ADC_IN0/ATIM_BRK1, 71 PD0/SEG22/UART5_RX/ADC_IN7/GPT2_CH1, 72 PD1/SEG23/UART5_TX/ADC_IN1/GPT2_CH2, 73 PD2/SEG24/SPI1_SSN/ADC_IN8/GPT2_CH3, 74 PD3/SEG25/SPI1_SCK/ADC_IN2/GPT2_CH4, 75 PD4/SEG26/SPI1_MISO/ADC_IN9/GPT2_ETR, 76 PD5/SEG27/SPI1_MOSI/ADC_IN3/LPT16_ETR, 77 PD6(WKUP7)/ATIM_BRK2/ADC_1N10/ANATST, 78 PD7/UART3_RX/SWCLK, 79 PD8/UART3_TX/SWIO, 80 NRST
2 alternate drawings of the same symbol

## FQD1P50
designator Q?
P Channel -500V_-1.2A_ 10.5 ohm; PartNumber: FQD1P50; Temperature Range: -x°C to x°C
footprint D-PAK (D-PAK/TO-252-AA; 3 Leads (1 Cropped); Body 10.4 (inc. leads) x 6.7 mm (LxW max))
pins: 1 G, 2 D, 3 S

## FQD2P40
designator Q?
P Channel -400V_-1.56A_ 6.5 ohm; PartNumber: FQD2P40; Temperature Range: -x°C to x°C
footprint D-PAK (D-PAK/TO-252-AA; 3 Leads (1 Cropped); Body 10.4 (inc. leads) x 6.7 mm (LxW max))
pins: 1 G, 2 D, 3 S

## FQD11P06
designator Q?
P_channel enhancement mode field effect transistor; PartNumber: FQD11P06; Temperature Range: -x°C to x°C
footprint D2Pak (D2Pak-(TO263/SOT404))
pins: 1 G, 2 D, 3 S

## FT232-RL
designator U?
USB To TTL; Temperature Range: -x°C to x°C; PartNumber: FT232-RL
footprint SSOP 28-5.3MM (SOP, 28-Leads, Body 10.2x5.3mm, Pitch 0.65mm, IPC Medium Density)
pins: 1 TXD, 2 TDR#, 3 RTS#, 4 VCCIO, 5 RXD, 6 RI#, 7 GND, 8 NC, 9 DSR#, 10 DCD#, 11 CTS#, 12 CBUS4, 13 CBUS2, 14 CBUS3, 15 USBDP, 16 USBDM, 17 3V3OUT, 18 GND, 19 RESET#, 20 VCC, 21 GND, 22 CBUS1, 23 CBUS0, 24 NC, 25 AGND, 26 TEST, 27 OSCI, 28 OSC0

## HC-05
designator U?
Inverter IC 6 Channel Open Drain 14-SOIC; PartNumber: HC-05; Temperature Range: -x°C to x°C
footprint HC-05
pins: 1 UART-TX (out), 2 UART-RX (in), 3 ~{UART-CTS} (in), 4 ~{UART-RTS} (out), 5 PCM-CLK (io), 6 PCM-OUT (out), 7 PCM-IN (in), 8 PCN-SYNC (io), 9 AIO[0] (io), 10 AIO[1] (io), 11 ~{RESETB} (in), 12 3.3_VCC (power), 13 GND (power), 15 USB_- (io), 16 ~{SPI_CSB} (in), 17 SPI_MOSI (in), 18 SPI_MISO (out), 19 SPI_CLK (in), 20 USB_+ (io), 21 GND (power), 22 GND (power), 23 PIO[0] (io), 24 PIO[1] (io), 25 PIO[2] (io), 26 PIO[3] (io), 27 PIO[4] (io), 28 PIO[5] (io), 29 PIO[6] (io), 30 PIO[7] (io), 31 PIO[8] (io), 32 PIO[9] (io), 33 PIO[10] (io), 34 PIO[11] (io)

## HV7802MG-G
designator U?, comment HV7802
High Side Current Monitor 8V to 450V; PartNumber: HV7802; Temperature Range: -x°C to x°C
footprint SOP-8N
pins: 1 IN, 2 RA, 3 LOAD, 4 NC_1, 5 NC_2, 6 OUT, 7 NC_3, 8 GND

## INA138
designator U?
High-Side Measurement Current Shunt Monitor; PartNumber: INA138; Temperature Range: -x°C to x°C
footprint SOT23-5
pins: 1 Out, 2 GND, 3 Vin+ (in), 4 Vin- (in), 5 V+

## INA170EA/2K
designator U?
High-Side Measurement Current Shunt Monitor; PartNumber: INA170EA/2K; Temperature Range: -x°C to x°C
footprint SOP-8N
pins: 1 Vin- (in), 2 Vin+ (in), 3 Vref (in), 4 GND, 5 ROS, 6 Out, 7 NC, 8 V+

## IR 2104
designator U?
High Voltage High and Low Side Driver; PartNumber: IR 2104; Temperature Range: -x°C to x°C
footprint DIP 8-N (DIP; 8 Leads; Row Spacing 7.62 mm; Pitch 2.54 mm)
footprint SOIC 8-3.9mm (SOIC, 8-Leads, Body 4.9x3.9mm, Pitch 1.27mm, IPC Medium Density)
pins: 1 VCC (power), 2 IN (in), 3 ~{SD} (in), 4 COM (power), 5 LO (out), 6 VS (power), 7 HO (out), 8 VB (power)

## IR 2113
designator U?
High Voltage High and Low Side Driver; PartNumber: IR 2113; Temperature Range: -x°C to x°C
footprint DIP 14-N (DIP; 14 Leads; Row Spacing 7.62 mm; Pitch 2.54 mm)
footprint SOIC 16-7.5MM (SOIC, 16-Leads, Body 10.3x7.5mm, Pitch 1.27mm, IPC Medium Density)
pins: 1 LO (out), 2 COM (power), 3 VCC (power), 4 NC, 5 VS (power), 6 VB (power), 7 HO (out), 8 NC, 9 VDD (power), 10 HIN (in), 11 SD (in), 12 LIN (in), 13 VSS (power), 14 NC

## IR 2117
designator U?, comment IR2117
Single Channel & High Voltage High Side Driver; PartNumber: IR2117; Temperature Range: -x°C to x°C
footprint SOIC 8-3.9mm (SOIC, 8-Leads, Body 4.9x3.9mm, Pitch 1.27mm, IPC Medium Density)
footprint DIP 8-N (DIP; 8 Leads; Row Spacing 7.62 mm; Pitch 2.54 mm)
pins: 1 VCC (power), 2 IN (in), 3 VSS (power), 4 NC, 5 NC, 6 VS (power), 7 HO (out), 8 VB (power)

## IR Sensor_Rx
designator D?, comment IR xmm_Rx
Infrared Receiver; PartNumber: IR xmm_Rx; Temperature Range: -x°C to x°C
footprint IR 3mm Rx
footprint IR 5mm RX
pins: A, K

## IR Sensor_Tx
designator D?, comment IR xmm_Tx
Infrared Transceivers; PartNumber: IR xmm_Tx; Temperature Range: -x°C to x°C
footprint IR 3mm Tx
footprint IR 5mm Tx
pins: A, K

## IRF 3205
designator Q?
110 A_55 V_R(ds)=8 mOhm_N Channel; PartNumber: IRF 3205; Temperature Range: -x°C to x°C
footprint TO-220 AB (Epoxy meets UL94, V0-Design:Abbas Basereh)
footprint TO-220 AB S (Epoxy meets UL94, V0-Design:Abbas Basereh)
footprint D2Pak (D2Pak-(TO263/SOT404))
pins: 1 G, 2 D, 3 S

## IRF 4905
designator Q?
-74 A -55V R(ds)=20 mOhm P Channel; PartNumber: IRF 4905; Temperature Range: -x°C to x°C
footprint TO-220 AB (Epoxy meets UL94, V0-Design:Abbas Basereh)
footprint TO-220 AB S (Epoxy meets UL94, V0-Design:Abbas Basereh)
footprint D2Pak (D2Pak-(TO263/SOT404))
footprint TO-220S
pins: 1 G, 2 D, 3 S

## IRF 7317
designator U?
VDSS (20V,-20V) - Rds(on) (0.050Ω 0.090Ω); Temperature Range: -x°C to x°C
footprint SOIC 8-3.9mm (SOIC, 8-Leads, Body 4.9x3.9mm, Pitch 1.27mm, IPC Medium Density)
part A pins: 1, 2, 7, 8
part B pins: 3, 4, 5, 6

## IRF 7416 PBF
designator Q?, comment IRF7416PBF
-30V -10A R(ds)=0.02 Ohm P Channel; PartNumber: IRF7416PBF; Temperature Range: -x°C to x°C
footprint SOIC 8-3.9mm (SOIC, 8-Leads, Body 4.9x3.9mm, Pitch 1.27mm, IPC Medium Density)
pins: 1, 2, 3, 4, 5, 6, 7, 8

## IRFP064N
designator Q?
PartNumber: IRFP064N; Temperature Range: -x°C to x°C
footprint TO-220 AB (Epoxy meets UL94, V0-Design:Abbas Basereh)
footprint TO-220 AB S (Epoxy meets UL94, V0-Design:Abbas Basereh)
footprint D2Pak (D2Pak-(TO263/SOT404))
footprint TO-247 H2
footprint TO-247
footprint to-247 H
pins: 1 G, 2 D, 3 S

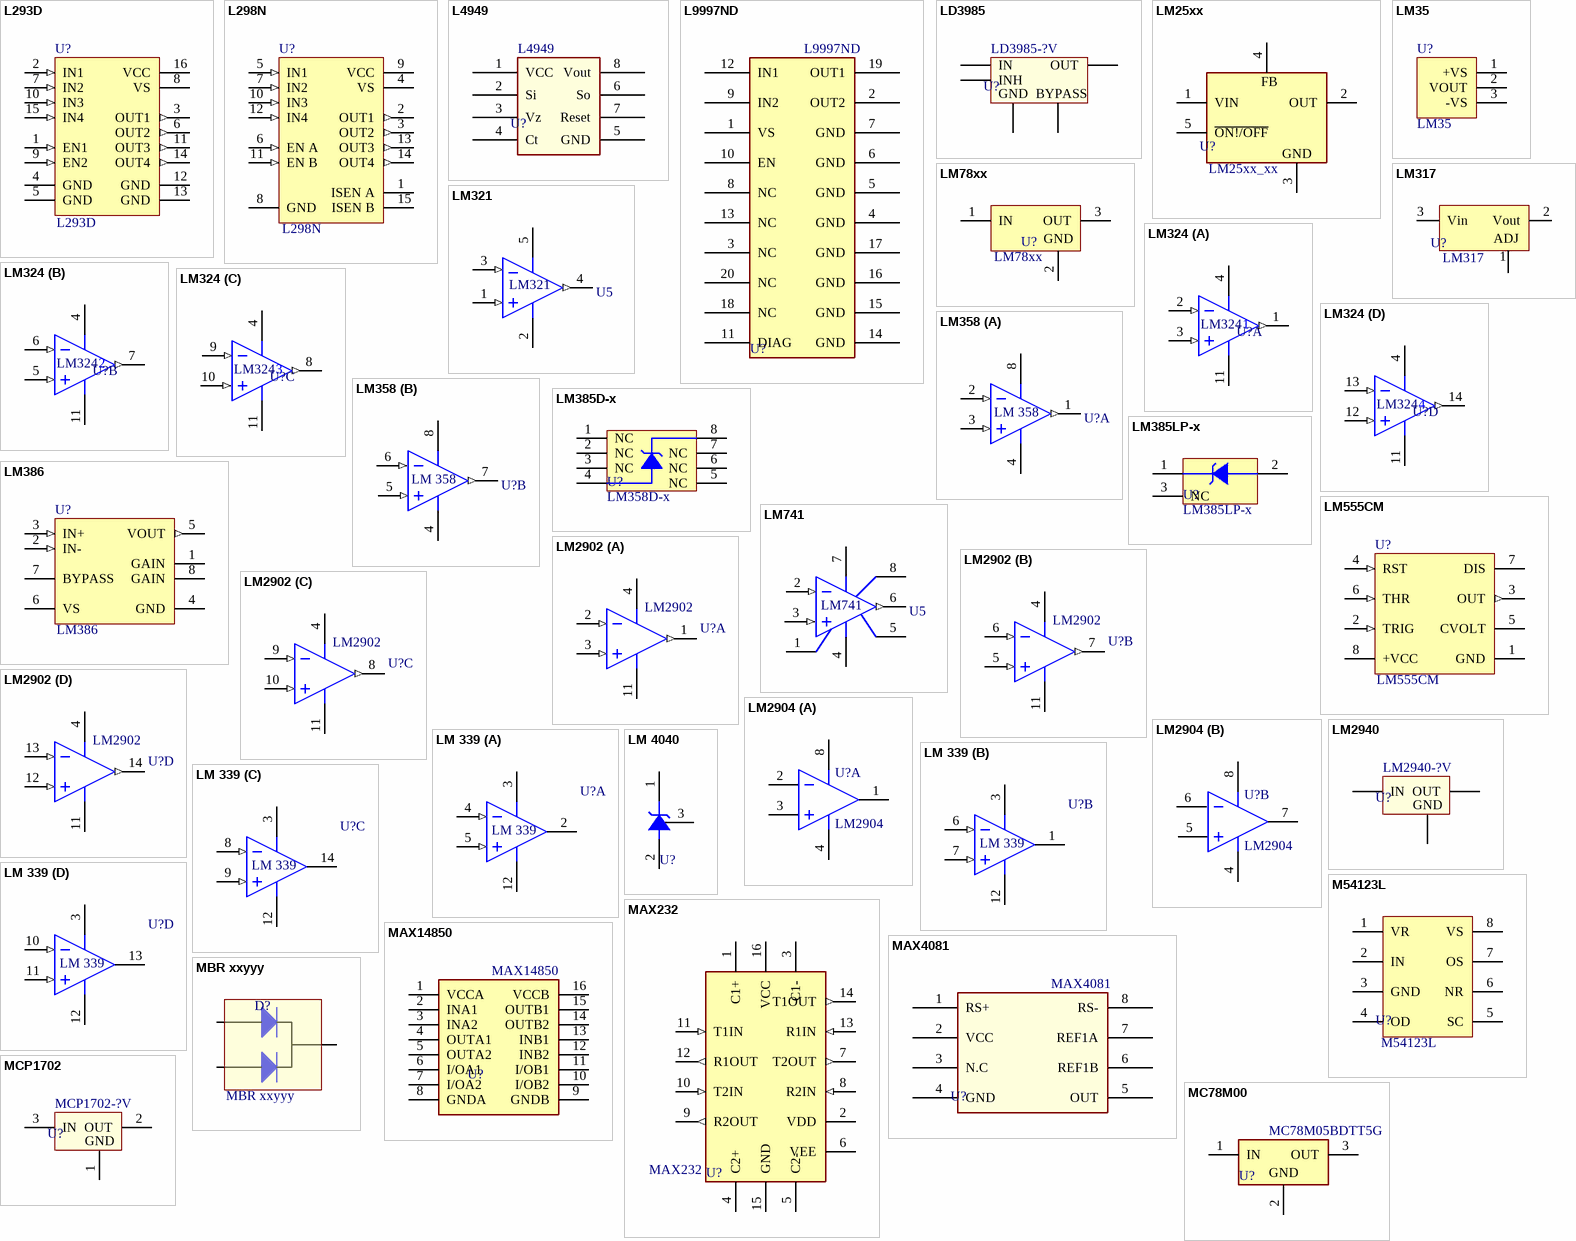
[diagram p3: symbols L293D to MCP1702]

## L293D
designator U?
Dual Full Bridge Driver; PartNumber: L293D; Temperature Range: -x°C to x°C
footprint DIP 16-N (DIP; 16 Leads; Row Spacing 7.62 mm; Pitch 2.54 mm)
pins: 1 EN1 (in), 2 IN1 (in), 3 OUT1 (out), 4 GND (power), 5 GND (power), 6 OUT2 (out), 7 IN2 (in), 8 VS (power), 9 EN2 (in), 10 IN3 (in), 11 OUT3 (out), 12 GND (power), 13 GND (power), 14 OUT4 (out), 15 IN4 (in), 16 VCC (power)

## L298N
designator U?
Dual Full Bridge Driver; PartNumber: L298N; Temperature Range: -x°C to x°C
footprint Multiwatt15
footprint Multiwatt15H (TO, Thru-Hole, Horizontal, Heatsink Mounted; 15 Bent Staggered Leads; Pitch 1.27 mm)
footprint Multiwatt15V (TO, Thru-Hole, Vertical, Heatsink Mounted; 15 Bent Staggered Leads; Pitch 1.27 mm)
pins: 1 ISEN A, 2 OUT1 (out), 3 OUT2 (out), 4 VS (power), 5 IN1 (in), 6 EN A (in), 7 IN2 (in), 8 GND (power), 9 VCC (power), 10 IN3 (in), 11 EN B (in), 12 IN4 (in), 13 OUT3 (out), 14 OUT4 (out), 15 ISEN B

## L4949
designator U?
Multifunction Very Low Dropout Voltage Regulator; PartNumber: L4949; Temperature Range: -x°C to x°C
footprint SOIC 8-3.9mm (SOIC, 8-Leads, Body 4.9x3.9mm, Pitch 1.27mm, IPC Medium Density)
pins: 1 VCC, 2 Si, 3 Vz, 4 Ct, 5 GND, 6 So, 7 Reset, 8 Vout

## L9997ND
designator U?
DUAL HALF BRIDGE DRIVER; PartNumber: L9997ND; Temperature Range: -x°C to x°C
footprint SOIC 20-7.5MM (SOIC, 20-Leads, Body 12.8x7.5mm, Pitch 1.27mm, IPC Medium Density)
pins: 1 VS, 2 OUT2, 3 NC, 4 GND, 5 GND, 6 GND, 7 GND, 8 NC, 9 IN2, 10 EN, 11 DIAG, 12 IN1, 13 NC, 14 GND, 15 GND, 16 GND, 17 GND, 18 NC, 19 OUT1, 20 NC

## LD3985
designator U?, comment LD3985-?V
Power supply rejection is better than 60 dB at low frequencies and rolls off at 10 kHz. High power supply rejection is maintained down to low input voltage levels common to battery operated circuits. Shutdown logic control function is available, this means that when the device is used as local regulator, it is possible to put a part of the board in standby, decreasing the total power consumption. The LD3985 is designed to work with low ESR ceramic capacitors. Typical applications are in mobile phones and similar battery-powered wireless systems; PartNumber: LD3985-?V; Temperature Range: -x°C to x°C
footprint SOT23-5
pins: 1 IN, 2 GND, 3 INH, 4 GND, 5 OUT
text: BYPASS

## LM25xx
designator U?, comment LM25xx_xx
Voltage Regulator; PartNumber: LM25xx_xx; Temperature Range: -x°C to x°C
footprint TO-220_5 (TO-220 STRAIGHT, T05A pitch: 1.7mm-Designer Abbas Basereh)
footprint D2Pak5 (D2PAK5-(TO263-5))
pins: 1 VIN, 2 OUT, 3 GND, 4 FB, 5 ~{ON!/OFF}

## LM35
designator U?
Temperature Sensor; PartNumber: LM35; Temperature Range: -x°C to x°C
footprint TO-92
footprint TO-92 BENT (DESIGNER :ABBAS BASEREH)
footprint TO-92 CF (DESIGNER :ABBAS BASEREH)
footprint TO-92 STR (DESIGNER :ABBAS BASEREH)
pins: 1 +VS, 2 VOUT, 3 -VS

## LM78xx
designator U?
Voltage Regulator; PartNumber: LM78xx; Temperature Range: -x°C to x°C
footprint D2PAK (D2Pak-(TO263/SOT404))
footprint TO-92 (TO, Flat Index; 3 In-Line, Axial Leads; Body Dia. 4.6mm; Leads 0.41 x 0.39 mm (max))
footprint TO-3 (Oval Flange Mount with (2) Offset Leads; Pin Spacing 10.92 mm; Lead Dia. 1.15 mm (max))
footprint TO-220 AB S (Epoxy meets UL94, V0-Design:Abbas Basereh)
footprint TO252AA
footprint TO-220 AB (Epoxy meets UL94, V0-Design:Abbas Basereh)
pins: 1 IN (power), 2 GND (power), 3 OUT (power)

## LM317
designator U?
Linear Voltage Regulator IC Positive Adjustable 1 Output 1.2 V ~ 37 V 1.5A TO-220AB; PartNumber: LM317; Temperature Range: -x°C to x°C
footprint TO-220 AB S (Epoxy meets UL94, V0-Design:Abbas Basereh)
footprint TO-220 AB (Epoxy meets UL94, V0-Design:Abbas Basereh)
footprint TO-3 H
footprint TO-3
footprint D2Pak (D2Pak-(TO263/SOT404))
footprint TO-92
footprint TO-92 CF (DESIGNER :ABBAS BASEREH)
footprint TO-92 BENT (DESIGNER :ABBAS BASEREH)
pins: 1 ADJ, 2 Vout, 3 Vin

## LM321
designator U5
General-Purpose Single Operational Amplifier; PartNumber: LM321; Temperature Range: -x°C to x°C
footprint SOT23-5
pins: 1 IN- (in), 2 V- (power), 3 IN+ (in), 4 OUT (out), 5 V+ (power)

## LM324
designator U?
Quadruple Operational Amplifier; PartNumber: LM324; Temperature Range: -x°C to x°C
footprint DIP 14-N (DIP; 14 Leads; Row Spacing 7.62 mm; Pitch 2.54 mm)
footprint SOIC 14-3.9mm (SOIC, 14-Leads, Body 8.7x3.9mm, Pitch 1.27mm, IPC Medium Density)
pins on every part: 4 V+ (power), 11 V- (power)
part A pins: 1 OUT (out), 2 IN+ (in), 3 IN- (in)
part B pins: 5 IN- (in), 6 IN+ (in), 7 OUT (out)
part C pins: 8 OUT (out), 9 IN+ (in), 10 IN- (in)
part D pins: 12 IN- (in), 13 IN+ (in), 14 OUT (out)

## LM358
designator U?, comment LM 358
Dual Op_Amp & Single Supply; PartNumber: LM 358; Temperature Range: -x°C to x°C
footprint DIP 8-N (DIP; 8 Leads; Row Spacing 7.62 mm; Pitch 2.54 mm)
footprint SOIC 8-3.9mm (SOIC, 8-Leads, Body 4.9x3.9mm, Pitch 1.27mm, IPC Medium Density)
pins on every part: 4 V- (power), 8 V+ (power)
part A pins: 1 OUT (out), 2 IN+ (in), 3 IN- (in)
part B pins: 5 IN- (in), 6 IN+ (in), 7 OUT (out)

## LM385D-x
designator U?, comment LM358D-x
Micropower Voltage Reference; PartNumber: LM358D-x; Temperature Range: -x°C to x°C
footprint SOIC 8-3.9mm (SOIC, 8-Leads, Body 4.9x3.9mm, Pitch 1.27mm, IPC Medium Density)
pins: 1 NC, 2 NC, 3 NC, 4 A, 5 NC, 6 NC, 7 NC, 8 K

## LM385LP-x
designator U?
Micropower Voltage Reference; Temperature Range: -x°C to x°C; PartNumber: LM385LP-x
footprint TO-92
footprint TO-92 BENT (DESIGNER :ABBAS BASEREH)
footprint TO-92 CF (DESIGNER :ABBAS BASEREH)
footprint TO-92 STR (DESIGNER :ABBAS BASEREH)
footprint SOT23_N (SOT23, 3-Leads, Body 2.9x1.3mm, Pitch 0.95mm, Lead Span 2.3mm - Reverse Pinning, IPC Medium Density); pin to pad 1>2 2>1
pins: 1 A, 2 K, 3 NC

## LM386
designator U?
Low Voltage Audio Power Amplifier; PartNumber: LM386; Temperature Range: -x°C to x°C
footprint DIP 8-N (DIP; 8 Leads; Row Spacing 7.62 mm; Pitch 2.54 mm)
footprint SOIC 8-3.9mm (SOIC, 8-Leads, Body 4.9x3.9mm, Pitch 1.27mm, IPC Medium Density)
pins: 1 GAIN, 2 IN- (in), 3 IN+ (in), 4 GND (power), 5 VOUT (out), 6 VS (power), 7 BYPASS, 8 GAIN

## LM555CM
designator U?
Timer, 8-pin Narrow SOIC; PartNumber: LM555CM; Temperature Range: -x°C to x°C
footprint DIP 8-N (DIP; 8 Leads; Row Spacing 7.62 mm; Pitch 2.54 mm)
footprint SOIC 8-3.9mm (SOIC, 8-Leads, Body 4.9x3.9mm, Pitch 1.27mm, IPC Medium Density)
pins: 1 GND (power), 2 TRIG (in), 3 OUT (out), 4 RST (in), 5 CVOLT, 6 THR (in), 7 DIS (oc), 8 +VCC (power)

## LM741
designator U5
General-Purpose Single Operational Amplifier; PartNumber: LM741; Temperature Range: -x°C to x°C
footprint DIP 8-N (DIP; 8 Leads; Row Spacing 7.62 mm; Pitch 2.54 mm)
footprint SOIC 8-3.9mm (SOIC, 8-Leads, Body 4.9x3.9mm, Pitch 1.27mm, IPC Medium Density)
pins: 1 OS NULL, 2 IN+ (in), 3 IN- (in), 4 V- (power), 5 OS NULL, 6 OUT (out), 7 V+ (power), 8 NC